# Altium schematic symbol library JLC_PCB.SchLib: 359 symbols (part 2 of 3)
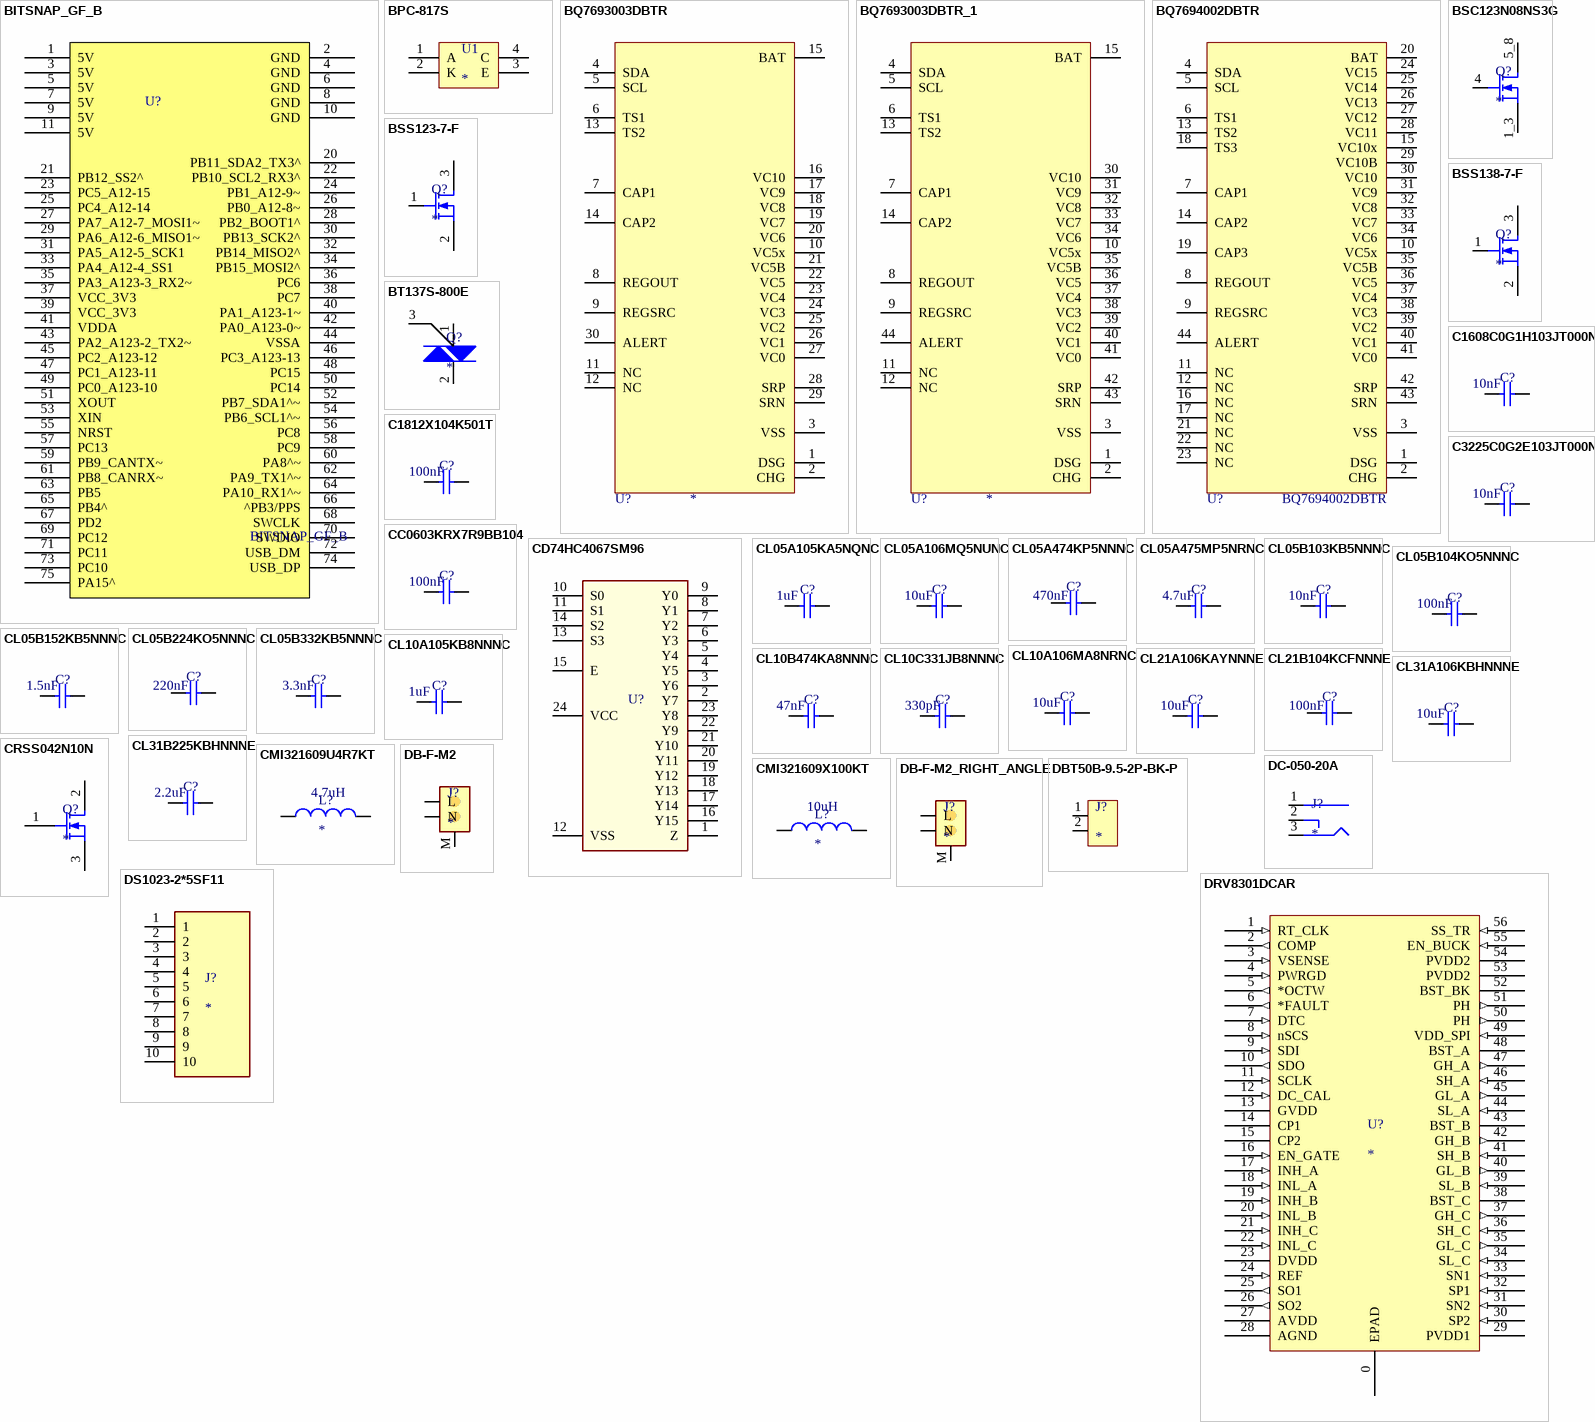
[diagram p10: symbols BITSNAP_GF_B to DS1023-2*5SF11]

## DRV8301DCAR
designator U?
U - IC - 60V Three Phase Gate Driver With Dual Current Shunt Amplifiers and  Buck Regulator; JLC Availability: Extended; LCSC Part #: C98969
footprint HTSSOP-56-EP (DRV830X)
pins: 0 EPAD, 1 RT_CLK (in), 2 COMP (out), 3 VSENSE (in), 4 PWRGD (in), 5 *OCTW (out), 6 *FAULT (out), 7 DTC (in), 8 nSCS (in), 9 SDI (in), 10 SDO (out), 11 SCLK (in), 12 DC_CAL (in), 13 GVDD (power), 14 CP1 (power), 15 CP2 (power), 16 EN_GATE (in), 17 INH_A (in), 18 INL_A (in), 19 INH_B (in), 20 INL_B (in), 21 INH_C (in), 22 INL_C (in), 23 DVDD (power), 24 REF (in), 25 SO1 (out), 26 SO2 (out), 27 AVDD (power), 28 AGND (power), 29 PVDD1 (power), 30 SP2 (in), 31 SN2 (in), 32 SP1 (in), 33 SN1 (in), 34 SL_C (in), 35 GL_C (out), 36 SH_C (in), 37 GH_C (out), 38 BST_C (power), 39 SL_B (in), 40 GL_B (out), 41 SH_B (in), 42 GH_B (out), 43 BST_B (power), 44 SL_A (in), 45 GL_A (out), 46 SH_A (in), 47 GH_A (out), 48 BST_A (power), 49 VDD_SPI (in), 50 PH (out), 51 PH (out), 52 BST_BK (power), 53 PVDD2 (power), 54 PVDD2 (power), 55 EN_BUCK (in), 56 SS_TR (in)

## DS1023-2*5SF11
designator J?
J - JACK - PIN_HEADER 2X5P; LCSC Part #: C92270; JLC Availability: Extended
footprint HDR_FEM_2X5P (10 Pin 2 Row Header)
pins: 1, 2, 3, 4, 5, 6, 7, 8, 9, 10

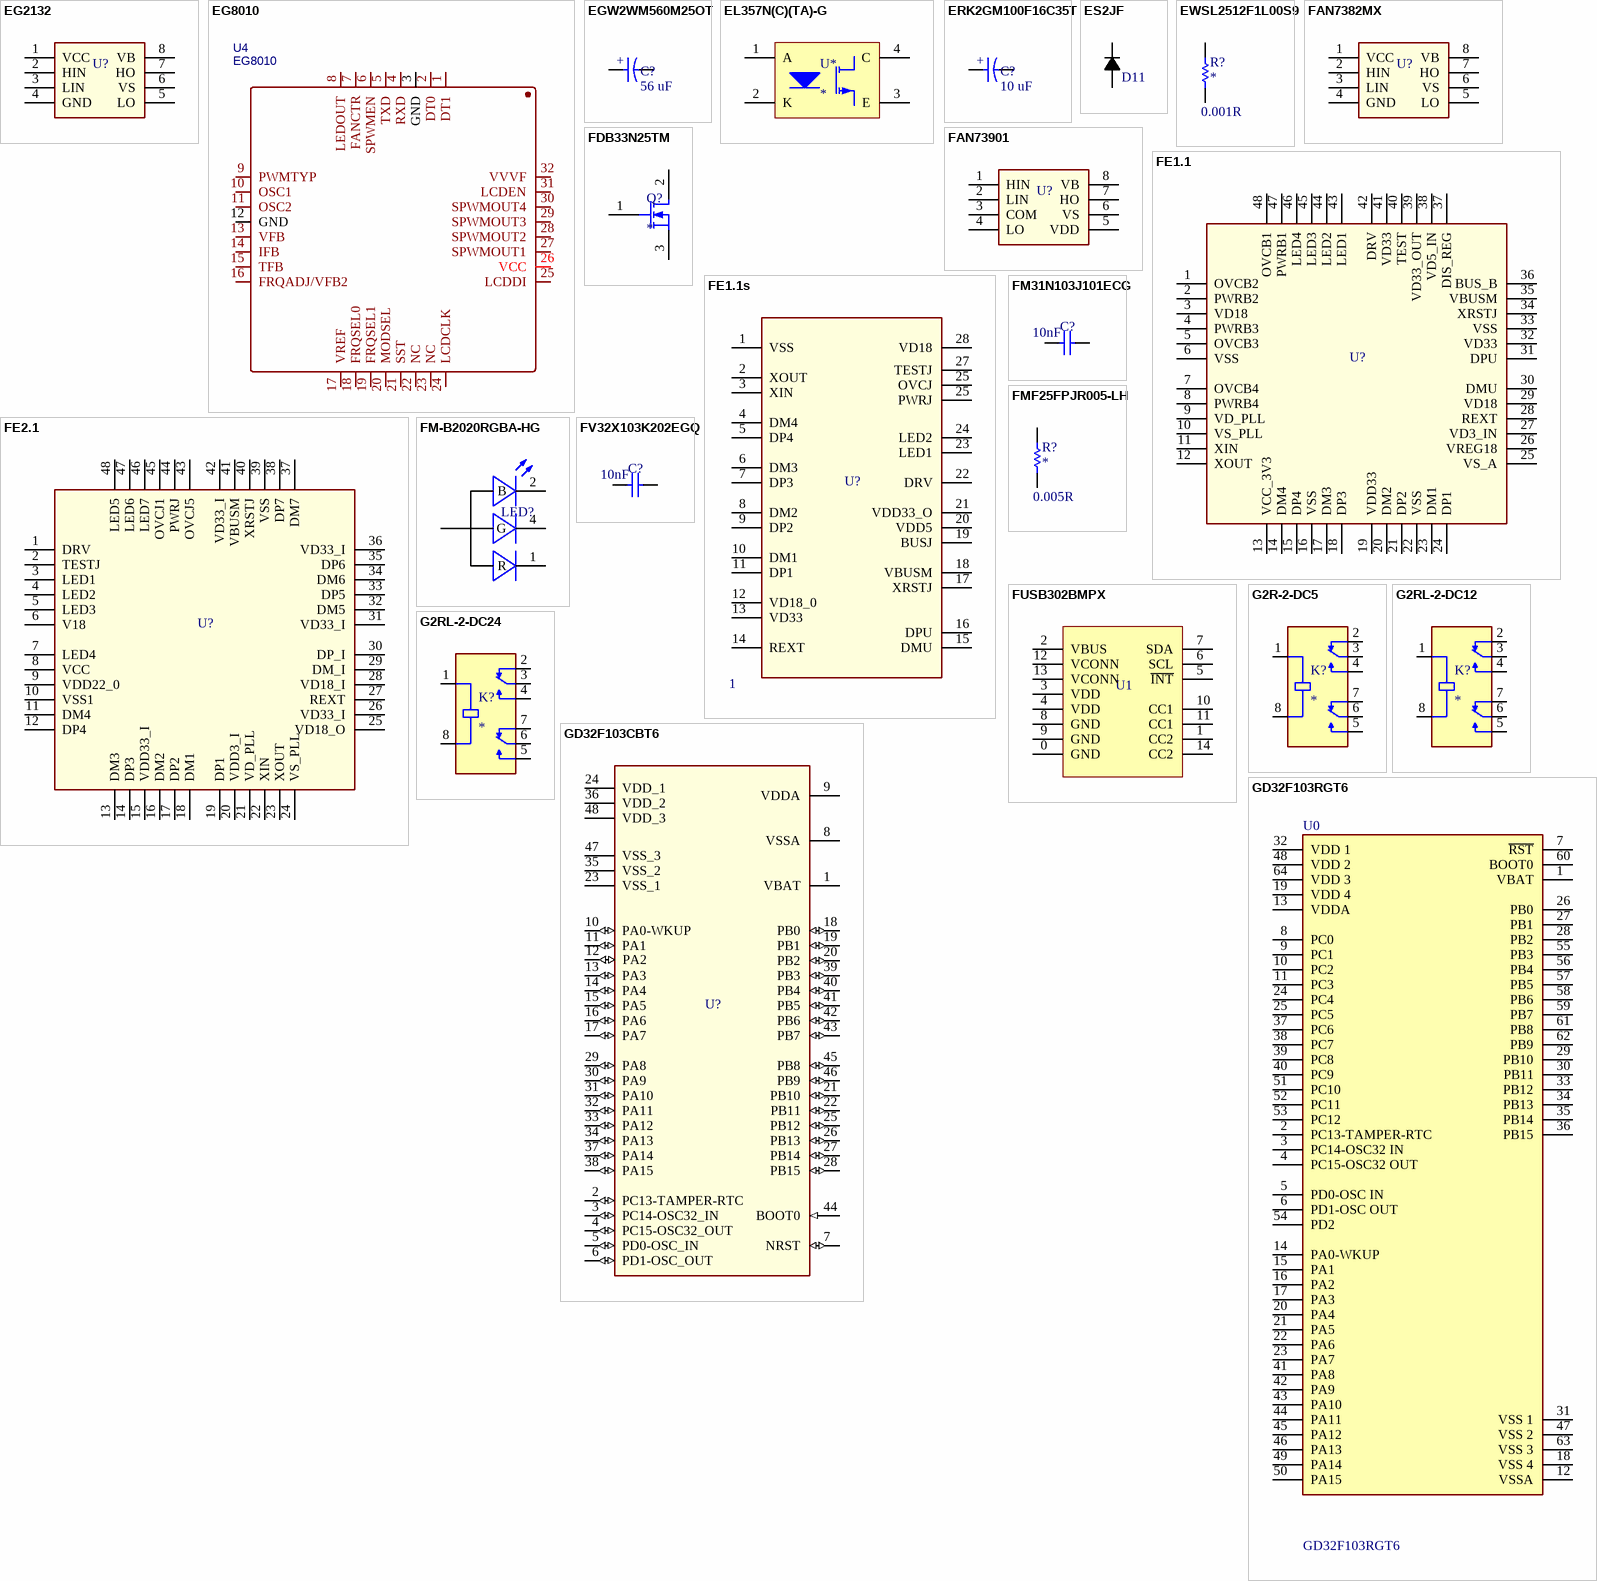
[diagram p5: symbols EG2132 to GD32F103RGT6]

## EG2132
designator U?
U - IC - GATE DRIVER - Half Bridge; ComponentLink1Description: Manufacturer URL; ComponentLink1URL: http://www.st.com/web/en/home.html; ComponentLink2Description: Datasheet; ComponentLink2URL: http://www.st.com/st-web-ui/static/active/en/resource/technical/document/datasheet/CD00161566.pdf; ComponentLink3Description: Package Specification; ComponentLink3URL: http://www.st.com/st-web-ui/static/active/en/resource/technical/document/datasheet/DM00058181.pdf; JLC Availability: Extended; LCSC Part #: C480660
footprint SOIC-8-P1.27-W3.5
pins: 1 VCC "VSS", 2 HIN "VSS_3", 3 LIN, 4 GND, 5 LO, 6 VS, 7 HO, 8 VB

## EG8010
designator U4
U - IC - PURE SINE ASIC; Manufacturer: EG; SMT Type: Extend; Supplier: LCSC; Manufacturer Part: EG8010; Supplier Part: C81683; LCSC Assembly: Yes; spicePre: U; spiceSymbolName: EG8010
footprint QFP-32-P0.5MM
pins: 1 DT1, 2 DT0, 3 GND, 4 RXD, 5 TXD, 6 SPWMEN, 7 FANCTR, 8 LEDOUT, 9 PWMTYP, 10 OSC1, 11 OSC2, 12 GND, 13 VFB, 14 IFB, 15 TFB, 16 FRQADJ/VFB2, 17 VREF, 18 FRQSEL0, 19 FRQSEL1, 20 MODSEL, 21 SST, 22 NC, 23 NC, 24 LCDCLK, 25 LCDDI, 26 VCC, 27 SPWMOUT1, 28 SPWMOUT2, 29 SPWMOUT3, 30 SPWMOUT4, 31 LCDEN, 32 VVVF

## EGW2WM560M25OT
designator C?, comment 56 uF
C - CAPACITOR - ELECTROYLTIC - 56 uF - 450V - TH; MANUFACTURER: AISHI (AIHUA) GROUP; LCSC PART #: C2902571; Availability: Extended
footprint CAP_D18_L7.5
pins: 1, 2
text: +

## EL357N(C)(TA)-G
designator U*
U - IC - OptoIsolator; JLC Availability: Basic; LCSC Part Number: C29981
footprint SOP-4 (Optoisolator)
pins: 1 A, 2 K, 3 E, 4 C

## ERK2GM100F16C35T
designator C?, comment 10 uF
C - CAPACITOR - ELECTROYLTIC - 10 uF - 450V - TH; MANUFACTURER: AISHI (AIHUA) GROUP; LCSC PART #: C721202; Availability: Extended
footprint CAP_D8_L16
pins: 1, 2
text: +

## ES2JF
designator D11  (value not drawn)
D - ES2JF ULTRAFAST DIODE 1KV - 2A; LCSC Part #: C7420342; JLC Availability: Basic
footprint DO-214AC (SMA Diode)
pins: 1 K, 2 A

## EWSL2512F1L00S9
designator R?  value 0.001R
R - RESISTOR - SMD - 0.001R - 1% - 2512 - 2W - 50ppm/k; ComponentLink1URL: http://riedon.com/media/pdf/CSR.pdf; ComponentLink1Description: http://riedon.com/media/pdf/CSR.pdf; LCSC Part #: C349153; JLC Availability: Extended
footprint R_2512 (VISHAY SHUNT RESISTOR)
pins: 1, 2

## FAN7382MX
designator U?
U - IC - GATE DRIVER - Half Bridge; ComponentLink1Description: Manufacturer URL; ComponentLink1URL: http://www.st.com/web/en/home.html; ComponentLink2Description: Datasheet; ComponentLink2URL: http://www.st.com/st-web-ui/static/active/en/resource/technical/document/datasheet/CD00161566.pdf; ComponentLink3Description: Package Specification; ComponentLink3URL: http://www.st.com/st-web-ui/static/active/en/resource/technical/document/datasheet/DM00058181.pdf; JLC Availability: Extended; LCSC Part #: C128796
footprint SOIC-8-P1.27-W3.5
pins: 1 VCC "VSS", 2 HIN "VSS_3", 3 LIN, 4 GND, 5 LO, 6 VS, 7 HO, 8 VB

## FAN73901
designator U?
U - IC - GATE DRIVER - Half Bridge; ComponentLink1Description: Manufacturer URL; ComponentLink1URL: http://www.st.com/web/en/home.html; ComponentLink2Description: Datasheet; ComponentLink2URL: http://www.st.com/st-web-ui/static/active/en/resource/technical/document/datasheet/CD00161566.pdf; ComponentLink3Description: Package Specification; ComponentLink3URL: http://www.st.com/st-web-ui/static/active/en/resource/technical/document/datasheet/DM00058181.pdf; JLC Availability: Extended; LCSC Part #: C76233
footprint SOIC-8-P1.27-W3.5
pins: 1 HIN "VSS", 2 LIN "VSS_3", 3 COM, 4 LO, 5 VDD, 6 VS, 7 HO, 8 VB

## FDB33N25TM
designator Q?
Q - TRANSISTOR - MOSFET (N) - 250V - 33A - 0.094R; WVDC: 250; JLC Availability: Extended; LCSC Part #: C241752
footprint TO-263-3 (D2PAK)
pins: 1 G, 2 D, 3 S

## FE1.1
designator U?
U - IC - USB 2.0 Hub - 4 Port - 6TT; Transaction Translators: 6; ComponentLink1Description: Manufacturer URL; ComponentLink1URL: http://www.st.com/web/en/home.html; ComponentLink2Description: Datasheet; ComponentLink2URL: http://www.st.com/st-web-ui/static/active/en/resource/technical/document/datasheet/CD00161566.pdf; ComponentLink3Description: Package Specification; ComponentLink3URL: http://www.st.com/st-web-ui/static/active/en/resource/technical/document/datasheet/DM00058181.pdf; JLC Availability: Extended; LCSC Part #: C28958
footprint QFP-48-P0.5MM (QFP; 48 Leads; Body 7 x 7 mm; Pitch 0.5 mm)
pins: 1 OVCB2, 2 PWRB2, 3 VD18, 4 PWRB3, 5 OVCB3, 6 VSS "VSS_1", 7 OVCB4 "VSS_1", 8 PWRB4 "VSS_1", 9 VD_PLL "VSS_1", 10 VS_PLL "VSS_1", 11 XIN "VSS_1", 12 XOUT "VSS_1", 13 VCC_3V3 "VSS_1", 14 DM4 "VSS_1", 15 DP4 "VSS_1", 16 VSS "VSS_1", 17 DM3, 18 DP3, 19 VDD33, 20 DM2, 21 DP2, 22 VSS "VSS_1", 23 DM1 "VSS_1", 24 DP1 "VSS_1", 25 VS_A "VSS_1", 26 VREG18 "VSS_1", 27 VD3_IN "VSS_1", 28 REXT "VSS_1", 29 VD18, 30 DMU, 31 DPU, 32 VD33, 33 VSS, 34 XRSTJ "VSS_1", 35 VBUSM "VSS_1", 36 BUS_B "VSS_1", 37 DIS_REG "VSS_1", 38 VD5_IN "VSS_1", 39 VD33_OUT "VSS_1", 40 TEST "VSS_1", 41 VD33, 42 DRV, 43 LED1, 44 LED2, 45 LED3, 46 LED4 "VSS_1", 47 PWRB1 "VSS_1", 48 OVCB1 "VSS_1"

## FE1.1s
designator U?  Transaction Translators: 1
U - IC - USB 2.0 Hub - 4 Port - 1TT; ComponentLink1Description: Manufacturer URL; ComponentLink1URL: http://www.st.com/web/en/home.html; ComponentLink2Description: Datasheet; ComponentLink2URL: http://www.st.com/st-web-ui/static/active/en/resource/technical/document/datasheet/CD00161566.pdf; ComponentLink3Description: Package Specification; ComponentLink3URL: http://www.st.com/st-web-ui/static/active/en/resource/technical/document/datasheet/DM00058181.pdf; JLC Availability: Extended; LCSC Part #: C9359
footprint TSSOP-28-P0.65MM-W3.9MM (Shrink Small Outline; 28 Leads)
pins: 1 VSS (power), 2 XOUT "VSS_3", 3 XIN, 4 DM4, 5 DP4, 6 DM3, 7 DP3, 8 DM2, 9 DP2, 10 DM1, 11 DP1, 12 VD18_0, 13 VD33, 14 REXT, 15 DMU, 16 DPU, 17 XRSTJ, 18 VBUSM, 19 BUSJ, 20 VDD5, 21 VDD33_O, 22 DRV, 23 LED1, 24 LED2, 25 PWRJ, 25 OVCJ, 27 TESTJ, 28 VD18

## FE2.1
designator U?
U - IC - USB 2.0 Hub, 7 Port, 6TT; Transaction Translators: 6; ComponentLink1Description: Manufacturer URL; ComponentLink1URL: http://www.st.com/web/en/home.html; ComponentLink2Description: Datasheet; ComponentLink2URL: http://www.st.com/st-web-ui/static/active/en/resource/technical/document/datasheet/CD00161566.pdf; ComponentLink3Description: Package Specification; ComponentLink3URL: http://www.st.com/st-web-ui/static/active/en/resource/technical/document/datasheet/DM00058181.pdf; JLC Availability: Extended; LCSC Part #: C39693
footprint QFP-48 (QFP; 48 Leads; Body 7 x 7 mm; Pitch 0.5 mm)
pins: 1 DRV, 2 TESTJ, 3 LED1, 4 LED2, 5 LED3, 6 V18 "VSS_1", 7 LED4 "VSS_1", 8 VCC "VSS_1", 9 VDD22_0 "VSS_1", 10 VSS1 "VSS_1", 11 DM4 "VSS_1", 12 DP4 "VSS_1", 13 DM3 "VSS_1", 14 DP3 "VSS_1", 15 VDD33_I "VSS_1", 16 DM2 "VSS_1", 17 DP2, 18 DM1, 19 DP1, 20 VDD3_I, 21 VD_PLL, 22 XIN "VSS_1", 23 XOUT "VSS_1", 24 VS_PLL "VSS_1", 25 VD18_O "VSS_1", 26 VD33_I "VSS_1", 27 REXT "VSS_1", 28 VD18_I "VSS_1", 29 DM_I, 30 DP_I, 31 VD33_I, 32 DM5, 33 DP5, 34 DM6 "VSS_1", 35 DP6 "VSS_1", 36 VD33_I "VSS_1", 37 DM7 "VSS_1", 38 DP7 "VSS_1", 39 VSS "VSS_1", 40 XRSTJ "VSS_1", 41 VBUSM, 42 VD33_I, 43 OVCJ5, 44 PWRJ, 45 OVCJ1, 46 LED7 "VSS_1", 47 LED6 "VSS_1", 48 LED5 "VSS_1"

## FM31N103J101ECG
designator C?  value 10nF  (hidden comment: *)
C - CAPACITOR - MLCC - 10nF - 100V - 1206 - C0G; WVDC: 100; LCSC Part #: C784087; JLC Availability: Extended
footprint C_1206 (Chip Capacitor; Body 3.2 x 1.6 mm (LxW typ))
pins: 1, 2

## FM-B2020RGBA-HG
designator LED?  (value not drawn)
D - LED - 2020 - RGB; JLC Availability: Extended; LCSC Part #: C108793
footprint FM-B2020RGBA-HG (FM-B2020RGBA-HG LED)
pins: 1 R, 2 B, 3 A, 4 G

## FMF25FPJR005-LH
designator R?  value 0.005R
R - RESISTOR - SMD - 0.005R - 1% - 2512 - 2W; ComponentLink1URL: http://riedon.com/media/pdf/CSR.pdf; ComponentLink1Description: http://riedon.com/media/pdf/CSR.pdf; LCSC Part #: C371096; JLC Availability: Extended
footprint R_2512 (VISHAY SHUNT RESISTOR)
pins: 1, 2

## FUSB302BMPX
designator U1  (value not drawn)
U - IC - USB PD PHY; JLC Availability: Extended; LCSC Part #: C442699
footprint QFN-14-P0.5MM (Quad Flat No Lead, Plastic; 14 Terminals; Body 2.5 x 2.5 mm; Pitch 0.5 mm)
pins: 0 GND, 1 CC2, 2 VBUS, 3 VDD, 4 VDD, 5 ~{INT}, 6 SCL, 7 SDA, 8 GND, 9 GND, 10 CC1, 11 CC1, 12 VCONN, 13 VCONN, 14 CC2

## FV32X103K202EGQ
designator C?  value 10nF  (hidden comment: *)
C - CAPACITOR - MLCC - 10nF - 2kV - 1210 - C0G; WVDC: 2000; LCSC Part #: C1021550; JLC Availability: Extended
footprint C_1210 (Chip Capacitor; Body 3.2 x 2.5 mm (LxW typ))
pins: 1, 2

## G2R-2-DC5
designator K?
SW - Relay 5VDC 5A DPDT THT; MP: G2R-2-DC5; Coil: 5V; MF: Omron; Current: 5A; Availability: Extended; Value: *; Type: DPDT; LCSC Part #: C45401
footprint G2R-2-DC5
pins: 1 COIL1, 2 NC1, 3 COM1, 4 NO1, 5 NO2, 6 COM2, 7 NC2, 8 COIL2

## G2RL-2-DC12
designator K?
SW - Relay 12VDC 8A DPDT (( 29mm 12.7mm 15.7mm)) THT; MP: G2RL-2-DC12; Coil: 12V; MF: Omron; Current: 8A; Availability: Extended; Value: *; Type: DPDT; LCSC Part #: C61458
footprint RELAY_G2RL-2_12DC
pins: 1 COIL1, 2 NC1, 3 COM1, 4 NO1, 5 NO2, 6 COM2, 7 NC2, 8 COIL2

## G2RL-2-DC24
designator K?
SW - Relay 24VDC 8A DPDT (( 29mm 12.7mm 15.7mm)) THT; MP: G2RL-2-DC24; Coil: 24V; MF: Omron; Current: 8A; Availability: Extended; Value: *; Type: DPDT; LCSC Part #: C2940452
footprint RELAY_G2RL-2_12DC
pins: 1 COIL1, 2 NC1, 3 COM1, 4 NO1, 5 NO2, 6 COM2, 7 NC2, 8 COIL2

## GD32F103CBT6
designator U?
U - IC - MCU, 128 KB Flash, 20 KB Internal RAM, 37 I/Os, 48-pin LQFP, -40 to 85 degC; FLASH Size (Prog) (kB): 128; I/Os (High Current): 37; Internal RAM Size (kB): 20; Operating Frequency(F) (Processor speed) (MHz): 72; ComponentLink1Description: Manufacturer URL; ComponentLink1URL: http://www.st.com/web/en/home.html; ComponentLink2Description: Datasheet; ComponentLink2URL: http://www.st.com/st-web-ui/static/active/en/resource/technical/document/datasheet/CD00161566.pdf; ComponentLink3Description: Package Specification; ComponentLink3URL: http://www.st.com/st-web-ui/static/active/en/resource/technical/document/datasheet/DM00058181.pdf; JLC Availability: Extended; LCSC Part #: C77979
footprint QFP-48-P0.5MM (QFP; 48 Leads; Body 7 x 7 mm; Pitch 0.5 mm)
pins: 1 VBAT (power), 2 PC13-TAMPER-RTC (io) "PC13-TAMPER-RTC/PC13/TAMPER-RTC", 3 PC14-OSC32_IN (io) "PC14-OSC32_IN/PC14/OSC32_IN", 4 PC15-OSC32_OUT (io) "PC15-OSC32_OUT/PC15/OSC32_OUT", 5 PD0-OSC_IN (io) "PD0/OSC_IN", 6 PD1-OSC_OUT (io) "PD1/OSC_OUT", 7 NRST (io), 8 VSSA (power), 9 VDDA (power), 10 PA0-WKUP (io) "PA0-WKUP/PA0/WKUP/USART2_CTS/ADC12_IN0/TIM2_CH1_ETR", 11 PA1 (io) "PA1/USART2_RTS/ADC12_IN1/TIM2_CH2", 12 PA2 (io) "PA2/USART2_TX/ADC12_IN2/TIM2_CH3", 13 PA3 (io) "PA3/USART2_RX/ADC12_IN3/TIM2_CH4", 14 PA4 (io) "PA4/SPI1_NSS/USART2_CK/ADC12_IN4", 15 PA5 (io) "PA5/SPI1_SCK/ADC12_IN5", 16 PA6 (io) "PA6/SPI1_MISO/ADC12_IN6/TIM3_CH1/TIM1_BKIN", 17 PA7 (io) "PA7/SPI1_MOSI/ADC12_IN7/TIM3_CH2/TIM1_CH1N", 18 PB0 (io) "PB0/ADC12_IN8/TIM3_CH3/TIM1_CH2N", 19 PB1 (io) "PB1/ADC12_IN9/TIM3_CH4/TIM1_CH3N", 20 PB2 (io) "PB2/BOOT1", 21 PB10 (io) "PB10/I2C2_SCL/USART3_TX/TIM2_CH3", 22 PB11 (io) "PB11/I2C2_SDA/USART3_RX/TIM2_CH4", 23 VSS_1 (power), 24 VDD_1 (power), 25 PB12 (io) "PB12/SPI2_NSS/I2C2_SMBAl/USART3_CK/TIM1_BKIN", 26 PB13 (io) "PB13/SPI2_SCK/USART3_CTS/TIM1_CH1N", 27 PB14 (io) "PB14/SPI2_MISO/USART3_RTS/TIM1_CH2N", 28 PB15 (io) "PB15/SPI2_MOSI/TIM1_CH3N", 29 PA8 (io) "PA8/USART1_CK/TIM1_CH1/MCO", 30 PA9 (io) "PA9/USART1_TX/TIM1_CH2", 31 PA10 (io) "PA10/USART1_RX/TIM1_CH3", 32 PA11 (io) "PA11/USART1_CTS/CANRX/USBDM/TIM1_CH4", 33 PA12 (io) "PA12/USART1_RTS/CANTX/USBDP/TIM1_ETR", 34 PA13 (io) "PA13/JTMS/SWDIO", 35 VSS_2 (power), 36 VDD_2 (power), 37 PA14 (io) "PA14/JTCK/SWCLK", 38 PA15 (io) "PA15/JTDI/TIM2_CH1_ETR/SPI1_NSS", 39 PB3 (io) "PB3/JTDO/TIM2_CH2/TRACESWO/SPI1_SCK", 40 PB4 (io) "PB4/NJTRST/TIM3_CH1/SPI1_MISO", 41 PB5 (io) "PB5/I2C1_SMBAI/TIM3_CH2/SPI1_MOSI", 42 PB6 (io) "PB6/I2C1_SCL/TIM4_CH1/USART1_TX", 43 PB7 (io) "PB7/I2C1_SDA/TIM4_CH2/USART1_RX", 44 BOOT0 (in), 45 PB8 (io) "PB8/TIM4_CH3/I2C1_SCL/CANRX", 46 PB9 (io) "PB9/TIM4_CH4/I2C1_SDA/CANTX", 47 VSS_3 (power), 48 VDD_3 (power)

## GD32F103RGT6
designator U0
U - IC - MCU 32BIT 128KB FLASH 64LQFP; ComponentLink2Description: Datasheet; ComponentLink1URL: https://upverter.com/upn/revision/179c87d5c3d4f257/; ComponentLink1Description: Upverter; ComponentLink2URL: http://www.st.com/content/ccc/resource/technical/document/datasheet/33/d4/6f/1d/df/0b/4c/6d/CD00161566.pdf/files/CD00161566.pdf/jcr:content/translations/en.CD00161566.pdf; LCSC Part #: C78275; JLC Availability: Extended
footprint QFP-64-P0.5MM (64-Pin Plastic Quad Flat Pack (TQFP))
pins: 1 VBAT (power), 2 PC13-TAMPER-RTC, 3 PC14-OSC32 IN, 4 PC15-OSC32 OUT, 5 PD0-OSC IN, 6 PD1-OSC OUT, 7 ~{RST}, 8 PC0, 9 PC1, 10 PC2, 11 PC3, 12 VSSA (power), 13 VDDA (power), 14 PA0-WKUP, 15 PA1, 16 PA2, 17 PA3, 18 VSS 4 (power), 19 VDD 4 (power), 20 PA4, 21 PA5, 22 PA6, 23 PA7, 24 PC4, 25 PC5, 26 PB0, 27 PB1, 28 PB2, 29 PB10, 30 PB11, 31 VSS 1 (power), 32 VDD 1 (power), 33 PB12, 34 PB13, 35 PB14, 36 PB15, 37 PC6, 38 PC7, 39 PC8, 40 PC9, 41 PA8, 42 PA9, 43 PA10, 44 PA11, 45 PA12, 46 PA13, 47 VSS 2 (power), 48 VDD 2 (power), 49 PA14, 50 PA15, 51 PC10, 52 PC11, 53 PC12, 54 PD2, 55 PB3, 56 PB4, 57 PB5, 58 PB6, 59 PB7, 60 BOOT0, 61 PB8, 62 PB9, 63 VSS 3 (power), 64 VDD 3 (power)

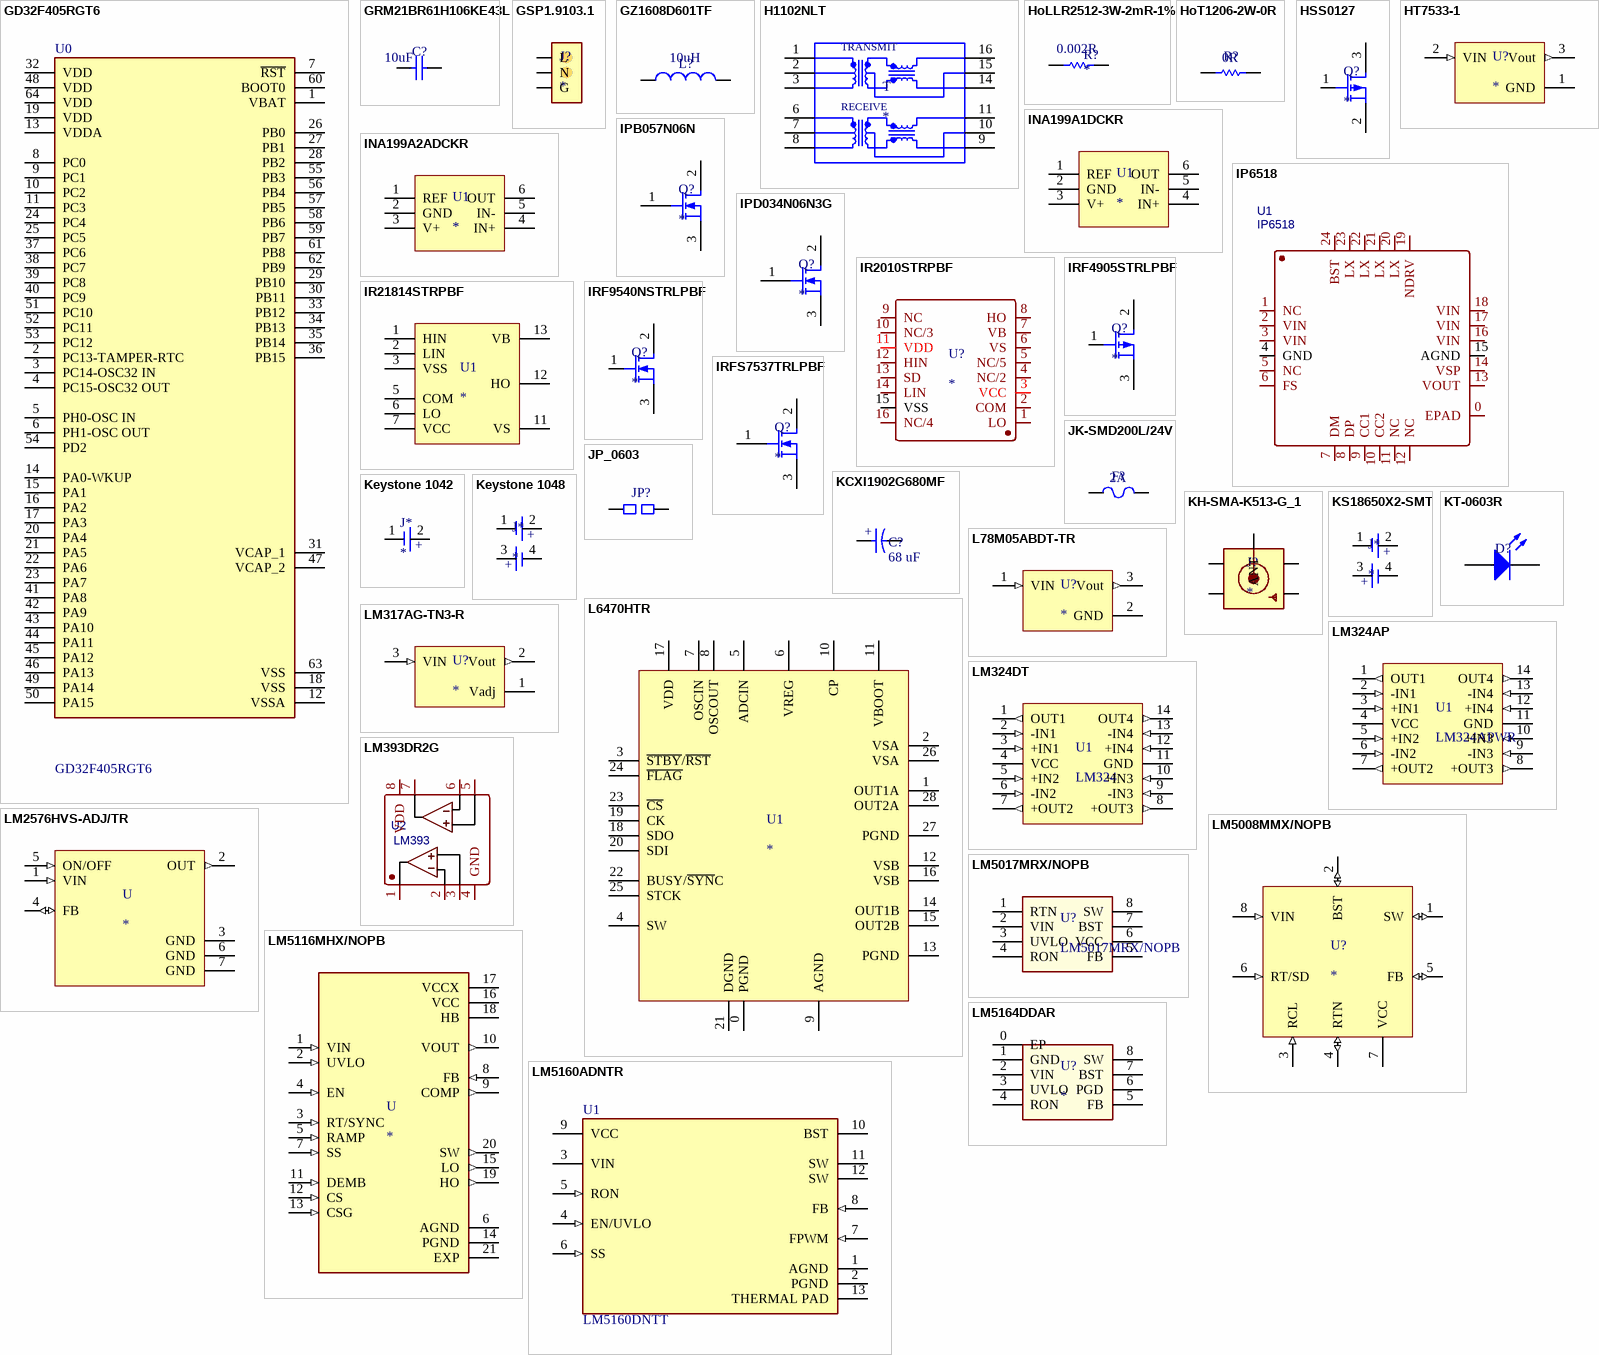
[diagram p6: symbols GD32F405RGT6 to LM5164DDAR]

## GD32F405RGT6
designator U0
U - IC - MCU 32BIT 1MB FLASH 64LQFP; ComponentLink2Description: Datasheet; ComponentLink1URL: https://upverter.com/upn/revision/179c87d5c3d4f257/; ComponentLink1Description: Upverter; ComponentLink2URL: http://www.st.com/content/ccc/resource/technical/document/datasheet/33/d4/6f/1d/df/0b/4c/6d/CD00161566.pdf/files/CD00161566.pdf/jcr:content/translations/en.CD00161566.pdf; LCSC Part #: C99031; JLC Availability: Extended
footprint QFP-64-P0.5MM (64-Pin Plastic Quad Flat Pack (TQFP))
pins: 1 VBAT (power), 2 PC13-TAMPER-RTC, 3 PC14-OSC32 IN, 4 PC15-OSC32 OUT, 5 PH0-OSC IN, 6 PH1-OSC OUT, 7 ~{RST}, 8 PC0, 9 PC1, 10 PC2, 11 PC3, 12 VSSA (power), 13 VDDA (power), 14 PA0-WKUP, 15 PA1, 16 PA2, 17 PA3, 18 VSS (power), 19 VDD (power), 20 PA4, 21 PA5, 22 PA6, 23 PA7, 24 PC4, 25 PC5, 26 PB0, 27 PB1, 28 PB2, 29 PB10, 30 PB11, 31 VCAP_1 (power), 32 VDD (power), 33 PB12, 34 PB13, 35 PB14, 36 PB15, 37 PC6, 38 PC7, 39 PC8, 40 PC9, 41 PA8, 42 PA9, 43 PA10, 44 PA11, 45 PA12, 46 PA13, 47 VCAP_2 (power), 48 VDD (power), 49 PA14, 50 PA15, 51 PC10, 52 PC11, 53 PC12, 54 PD2, 55 PB3, 56 PB4, 57 PB5, 58 PB6, 59 PB7, 60 BOOT0, 61 PB8, 62 PB9, 63 VSS (power), 64 VDD (power)

## GRM21BR61H106KE43L
designator C?  value 10uF  (hidden comment: *)
C - CAPACITOR - MLCC - 10uF - 50V - 0805; WVDC: 50; LCSC Part #: C440198; Availability: Basic
footprint C_0805 (Chip Capacitor; Body 2.0 x 1.2 mm (LxW typ))
pins: 1, 2

## GSP1.9103.1
designator J?
J - JACK - POWER - 220/V115V - IEC - RA - MALE; JLC Availability: None
footprint GSP1.9103.1
pins: G, L, N

## GZ1608D601TF
designator L?  value 10uH  (hidden comment: *)
L - FERRITE - 200mA 600R @ 100MHz - 0603; JLC Availability: Basic; LCSC Part #: C1002
footprint L_0603
pins: 1, 2

## H1102NLT
designator T
T - Transfrormer - Isolation and Data Interface _Encapsulated_ Pulse Transformer 1:1 Transmitter, 1:1 Receiver Surface Mount; MF: Pulse Electronics; MP: H1102NL; Package: SOIC-16 Pulse; Value: *; LCSC Part #: C18584; SnapEDA_Link: https://www.snapeda.com/parts/H1102NL/Pulse%20Electronics%20Network/view-part/78695/?ref=snap; Availability: Extended
footprint XFMR_H1102NLT
pins: 1, 2, 3, 6, 7, 8, 9, 10, 11, 14, 15, 16
text: TRANSMIT; RECEIVE

## HoLLR2512-3W-2mR-1%
designator R?  value 0.002R
R - RESISTOR - SMD - 0.002R - 1% - 2512 - 2W - 50ppm/k; ComponentLink1URL: http://riedon.com/media/pdf/CSR.pdf; ComponentLink1Description: http://riedon.com/media/pdf/CSR.pdf; LCSC Part #: C2994640; JLC Availability: Extended
footprint R_2512 (VISHAY SHUNT RESISTOR)
pins: 1, 2

## HoT1206-2W-0R
designator R?  value 0R  (hidden comment: *)
R - RESISTOR - SMD - 0R - 1% - 1206; LCSC Part #: C5127788; JLC Availability: Extended
footprint R_1206 (Body 3.2 x 1.6 mm (LxW typ))
pins: 1, 2

## HSS0127
designator Q?
Q - TRANSISTOR - MOSFET (P) - 100V - 0.9A - 0.65 Ohm; WVDC: 100; JLC Availability: Extended; LCSC Part #: C700960
footprint TO-236AB (SOT-23-3 Leads; Body 3.1 x 3 mm, inc. leads (LxW max))
pins: 1 G, 2 S, 3 D

## HT7533-1
designator U?
U - IC - 3V3 Power Regulator; VOut: 3.3; LCSC Part #: C14289; JLC Availability: Basic
footprint SOT-223-3 (SOT223, 4-Leads, Body IPC High Density)
pins: 1 GND (power), 2 VIN (in), 3 Vout (out)

## INA199A1DCKR
designator U1
U - IC - Bidirectional Current-Sensing Amplifiers 50V/V; JLC Availability: Extended; LCSC Part #: C59135
footprint SOT-353-6 (6 Leads; Body 2.1 x 2.4 mm, inc. leads (LxW max))
pins: 1 REF, 2 GND, 3 V+, 4 IN+, 5 IN-, 6 OUT

## INA199A2ADCKR
designator U1
U - IC - Bidirectional Current-Sensing Amplifiers 100V/V; JLC Availability: Extended; LCSC Part #: C131913
footprint SOT-353-6 (6 Leads; Body 2.1 x 2.4 mm, inc. leads (LxW max))
pins: 1 REF, 2 GND, 3 V+, 4 IN+, 5 IN-, 6 OUT

## IP6518
designator U1
U - IC - USB TYPE C Charger; Manufacturer: INJOINIC; Contributor: LCSC; Supplier: LCSC; LCSC Part #: C181688; Manufacturer Part: IP6518; JLCPCB Part Class: Extended Part; spicePre: U; spiceSymbolName: IP6518
footprint QFN-24-P0.5mm (Quad Flat No Lead, Plastic; 24 Terminals; Body 4 x 4 mm; Pitch 0.5 mm)
pins: 0 EPAD, 1 NC, 2 VIN, 3 VIN, 4 GND, 5 NC, 6 FS, 7 DM, 8 DP, 9 CC1, 10 CC2, 11 NC, 12 NC, 13 VOUT, 14 VSP, 15 AGND, 16 VIN, 17 VIN, 18 VIN, 19 NDRV, 20 LX, 21 LX, 22 LX, 23 LX, 24 BST

## IPB057N06N
designator Q?
Q - TRANSISTOR - MOSFET (N) - 60V - 45A - 0.0057R; WVDC: 60; JLC Availability: Extended; LCSC Part #: C151524
footprint TO-263-3 (D2PAK)
pins: 1 G, 2 D, 3 S

## IPD034N06N3G
designator Q?
Q - TRANSISTOR - MOSFET (N) - 60V - 100A; WVDC: 60; LCSC Part #: C94897; JLC Availability: Extended
footprint TO-252AA (DPAK)
pins: 1 G, 2 D, 3 S

## IR2010STRPBF
designator U?
U - IC - GATE DRIVER, Half Bridge, Isolated; LCSC Part #: C114890; JLC Availability: Extended
footprint SOIC-16-P1.27-W7.5
pins: 1 LO, 2 COM, 3 VCC, 4 NC/2, 5 NC/5, 6 VS, 7 VB, 8 HO, 9 NC, 10 NC/3, 11 VDD, 12 HIN, 13 SD, 14 LIN, 15 VSS, 16 NC/4

## IR21814STRPBF
designator U1
U - IC - GATE DRIVER, Half Bridge, Isolated; LCSC Part #: C371545; JLC Availability: Extended
footprint SOIC-14-P1.27-W3.5
pins: 1 HIN, 2 LIN, 3 VSS, 5 COM, 6 LO, 7 VCC, 11 VS, 12 HO, 13 VB

## IRF4905STRLPBF
designator Q?
Q - TRANSISTOR - MOSFET (P) - 55V - 42A - 0.02R; WVDC: 60; LCSC Part #: C2620; JLC Availability: Extended
footprint TO-263-3 (D2PAK)
pins: 1 G, 2 D, 3 S

## IRF9540NSTRLPBF
designator Q?
Q - TRANSISTOR - MOSFET (P) - 100V - 23A - 0.117R; WVDC: 100; JLC Availability: Extended; LCSC Part #: C33903
footprint TO-263-3 (D2PAK)
pins: 1 G, 2 D, 3 S

## IRFS7537TRLPBF
designator Q?
Q - TRANSISTOR - MOSFET (N) - 60V - 175A - 0.0033R; WVDC: 60; JLC Availability: Extended; LCSC Part #: C538034
footprint TO-263-3 (D2PAK)
pins: 1 G, 2 D, 3 S

## JK-SMD200L/24V
designator F?  value 2A  (hidden comment: *)
F - FUSE - PTC - 2A HOLD - 4A TRIP - SMD; LCSC Part #: C2680534; JLC Availability: Extended
footprint JK-SMD200L-24 (Body 7.24 x 3.81 mm (LxW typ))
pins: 1, 2

## JP_0603
designator JP?  (value not drawn)
JP - JUMPER - SMD - 0R - 1% - 0603; LCSC Part #: C21189; JLC Availability: Basic; Value: 0R
footprint J_0603 (Body 1.6 x 0.8 mm (LxW typ))
pins: 1, 2

## KCXI1902G680MF
designator C?, comment 68 uF
C - CAPACITOR - ELECTROYLTIC - 68 uF - 450V - TH; MANUFACTURER: Ymin; LCSC PART #: C2874034; Availability: Extended
footprint CAP_D18_L7.5
pins: 1, 2
text: +

## Keystone 1042
designator J*
J - JACK - SMT Battery Holder 18650
footprint Keystone 1042 (SMT Battery Holder 18650)
pins: 1, 2 1
text: +

## Keystone 1048
designator J*
J - JACK - SMT Battery Holder 18650X2 Cells
footprint Keystone 1048 (SMT Battery Holder 18650X2 Cells)
pins: 1, 2 1, 3, 4
text: +

## KH-SMA-K513-G_1
designator J?
J - JACK - RF SMA - Right - THT; LCSC Part #: C411575; JLC Availability: None
footprint SMA_THT_HORIZONTAL (SMA Through Hole Connector Right Angle)
pins: 0 GND1 (power), 0 GND2 (power), 0 GND3 (power), 0 GND4 (power), 1 ANT

## KS18650X2-SMT
designator J*
J - JACK - SMT Battery Holder 18650X2 Cells
footprint KS18650X2-SMT (SMT Battery Holder 18650X2 Cells)
pins: 1, 2 1, 3, 4
text: +

## KT-0603R
designator D?  (value not drawn)
D - LED - 0603 - Red; LCSC Part #: C2286; JLC Availability: Basic
footprint D_0603 (Chip Diode; Body 1.6 x 0.8 mm (LxW typ))
pins: 1 K, 2 A

## L78M05ABDT-TR
designator U?
U - IC - 5V Power Regulator; VOut: 5.0; LCSC Part #: C58069; JLC Availability: Basic
footprint TO-252AA (DPAK)
pins: 1 VIN (in), 2 GND (power), 3 Vout (out)

## L6470HTR
designator U1
U - IC - Motor Driver - Stepper; JLC Availability: Extended; LCSC Part #: C182381
footprint TSSOP-28-EP-P0.65MM-W4.4MM (Shrink Small Outline; 28 Leads)
pins: 0 PGND, 1 OUT1A, 2 VSA, 3 ~{STBY}/~{RST}, 4 SW, 5 ADCIN, 6 VREG, 7 OSCIN, 8 OSCOUT, 9 AGND, 10 CP, 11 VBOOT, 12 VSB, 13 PGND, 14 OUT1B, 15 OUT2B, 16 VSB, 17 VDD, 18 SDO, 19 CK, 20 SDI, 21 DGND, 22 BUSY/~{SYN}C, 23 ~{CS}, 24 ~{FLAG}, 25 STCK, 26 VSA, 27 PGND, 28 OUT2A

## LM317AG-TN3-R
designator U?
U - IC - ADJUSTABLE LDO; VOut: ADJ; LCSC Part #: C75510; JLC Availability: Basic
footprint TO-252AA (DPAK)
pins: 1 Vadj (power), 2 Vout (out), 3 VIN (in)

## LM324AP
designator U1, comment LM324APWR
U - IC - OP AMP (QUAD); Speed: 0.4V/us; LCSC Part #: C111180; JLC Availability: Extended
footprint TSSOP-14-P0.65MM-W4.4MM (Shrink Small Outline, TSSOP; 14 Leads; Body Width 4.4 mm; Pitch 0.65 mm)
pins: 1 OUT1 (out), 2 -IN1 (in), 3 +IN1 (in), 4 VCC (power), 5 +IN2 (in), 6 -IN2 (in), 7 +OUT2 (out), 8 +OUT3 (out), 9 -IN3 (in), 10 +IN3 (in), 11 GND (power), 12 +IN4 (in), 13 -IN4 (in), 14 OUT4 (out)

## LM324DT
designator U1, comment LM324
U - IC - OP AMP (QUAD); Speed: 0.4V/us; LCSC Part #: C71035; JLC Availability: Basic
footprint SOIC-14-P1.27-W3.5
pins: 1 OUT1 (out), 2 -IN1 (in), 3 +IN1 (in), 4 VCC (power), 5 +IN2 (in), 6 -IN2 (in), 7 +OUT2 (out), 8 +OUT3 (out), 9 -IN3 (in), 10 +IN3 (in), 11 GND (power), 12 +IN4 (in), 13 -IN4 (in), 14 OUT4 (out)

## LM393DR2G
designator U2, comment LM393
U - IC - Dual Comparator; Manufacturer: ON; Contributor: LCSC; Supplier: LCSC; LCSC Part #: C7955; Manufacturer Part: LM393; spicePre: U; spiceSymbolName: LM393
footprint SOIC-8-P1.27-W3.5
pins: 1, 2, 3, 4 GND, 5, 6, 7, 8 VDD

## LM2576HVS-ADJ/TR
designator U
U - IC - BUCK CONVERTER, ADJUSTABLE, 60V, 3A; MF: Texas Instruments; Package: TO-263-5; Availability: Extended; Value: *; LCSC Part #: C234208; Texas_Instruments-Purchase-URL: https://snapeda.com/shop?store=Texas+Instruments&id=213619
footprint TO-263-5
pins: 1 VIN (in), 2 OUT (out), 3 GND (power), 4 FB (io), 5 ON/OFF (in), 6 GND (power), 7 GND (power)

## LM5008MMX/NOPB
designator U?
U - IC - BUCK CONVERTER, ADJUSTABLE, 95V, 350mA; MP: LM5008MMX/NOPB; Package: None; Price: None; Value: *; Availability: Unavailable
footprint SOP65P490X110-8N
pins: 1 SW (io), 2 BST (io), 3 RCL (in), 4 RTN (io), 5 FB (io), 6 RT/SD (in), 7 VCC (power), 8 VIN (in)

## LM5017MRX/NOPB
designator U?
U - IC - BUCK CONVERTER, ADJUSTABLE, 100V; ComponentLink1Description: Manufacturer URL; ComponentLink1URL: http://www.st.com/web/en/home.html; ComponentLink2Description: Datasheet; ComponentLink2URL: http://www.st.com/st-web-ui/static/active/en/resource/technical/document/datasheet/CD00161566.pdf; ComponentLink3Description: Package Specification; ComponentLink3URL: http://www.st.com/st-web-ui/static/active/en/resource/technical/document/datasheet/DM00058181.pdf; JLC Availability: Extended; LCSC Part #: C34355
footprint SOIC-8-P1.27-W3.5
pins: 1 RTN, 2 VIN, 3 UVLO, 4 RON, 5 FB, 6 VCC, 7 BST, 8 SW

## LM5116MHX/NOPB
designator U
U - IC - Buck Regulator Positive Output Step-Down DC-DC Controller IC 20-HTSSOP; MF: Texas Instruments; MP: LM5116MHX; SnapEDA_Link: https://www.snapeda.com/parts/LM5116MHX/Texas%20Instruments/view-part/896578/?ref=snap; LCSC part #: C13755; Availability: Extended; Package: HTSSOP-20 Texas Instruments; Value: *
footprint SOP65P640X110-21N
pins: 1 VIN (in), 2 UVLO (in), 3 RT/SYNC (in), 4 EN (in), 5 RAMP (in), 6 AGND (power), 7 SS (in), 8 FB (in), 9 COMP (out), 10 VOUT (out), 11 DEMB (in), 12 CS (in), 13 CSG (in), 14 PGND (power), 15 LO (out), 16 VCC (power), 17 VCCX (power), 18 HB (power), 19 HO (out), 20 SW (out), 21 EXP (power)

## LM5160ADNTR
designator U1, comment LM5160DNTT
U - IC REG BCK FLYBCK ADJ 12WSON; Min Input Voltage: 4.5V; Operating Supply Current: 2.3mA; Output Current: 1.5A; Number of Outputs: 1; Topology: Flyback; Synchronous Rectifier: Yes; Output Type: Adjustable; Max Input Voltage: 65V; Min Output Voltage: 2V; Switching Frequency: 1MHz; Output Voltage: 60V; Mount: Surface Mount; Min Operating Temperature: -40°C; Package Quantity: 250; Min Supply Voltage: 4.5V; Max Operating Temperature: 125°C; RoHS Compliant: Yes; Contact Plating: Tin; Height: 0.8mm; Packaging: Tape and Reel; Quiescent Current: 2.3mA; Lead Free: Lead Free; Number of Pins: 12; Max Output Current: 1.5A; REACH SVHC: No SVHC; Width: 4mm; Operating Supply Voltage: 65V; Max Output Voltage: 60V; Length: 4mm; ClassName: Switching Reg; LCSC PART #: C473375
footprint FP-DNT0012B-IPC_A (Footprint not found)
pins: 1 AGND (power), 2 PGND (power), 3 VIN (power), 4 EN/UVLO (in), 5 RON (in), 6 SS (in), 7 FPWM (in), 8 FB (in), 9 VCC (power), 10 BST, 11 SW, 12 SW, 13 THERMAL PAD (power)

## LM5164DDAR
designator U?
U - IC - BUCK CONVERTER, ADJUSTABLE, 100V; ComponentLink1Description: Manufacturer URL; ComponentLink1URL: http://www.st.com/web/en/home.html; ComponentLink2Description: Datasheet; ComponentLink2URL: http://www.st.com/st-web-ui/static/active/en/resource/technical/document/datasheet/CD00161566.pdf; ComponentLink3Description: Package Specification; ComponentLink3URL: http://www.st.com/st-web-ui/static/active/en/resource/technical/document/datasheet/DM00058181.pdf; JLC Availability: Extended; LCSC Part #: C477928
footprint SOIC-8-P1.27-W3.5-EP
pins: 0 EP, 1 GND, 2 VIN, 3 UVLO, 4 RON, 5 FB, 6 PGD, 7 BST, 8 SW

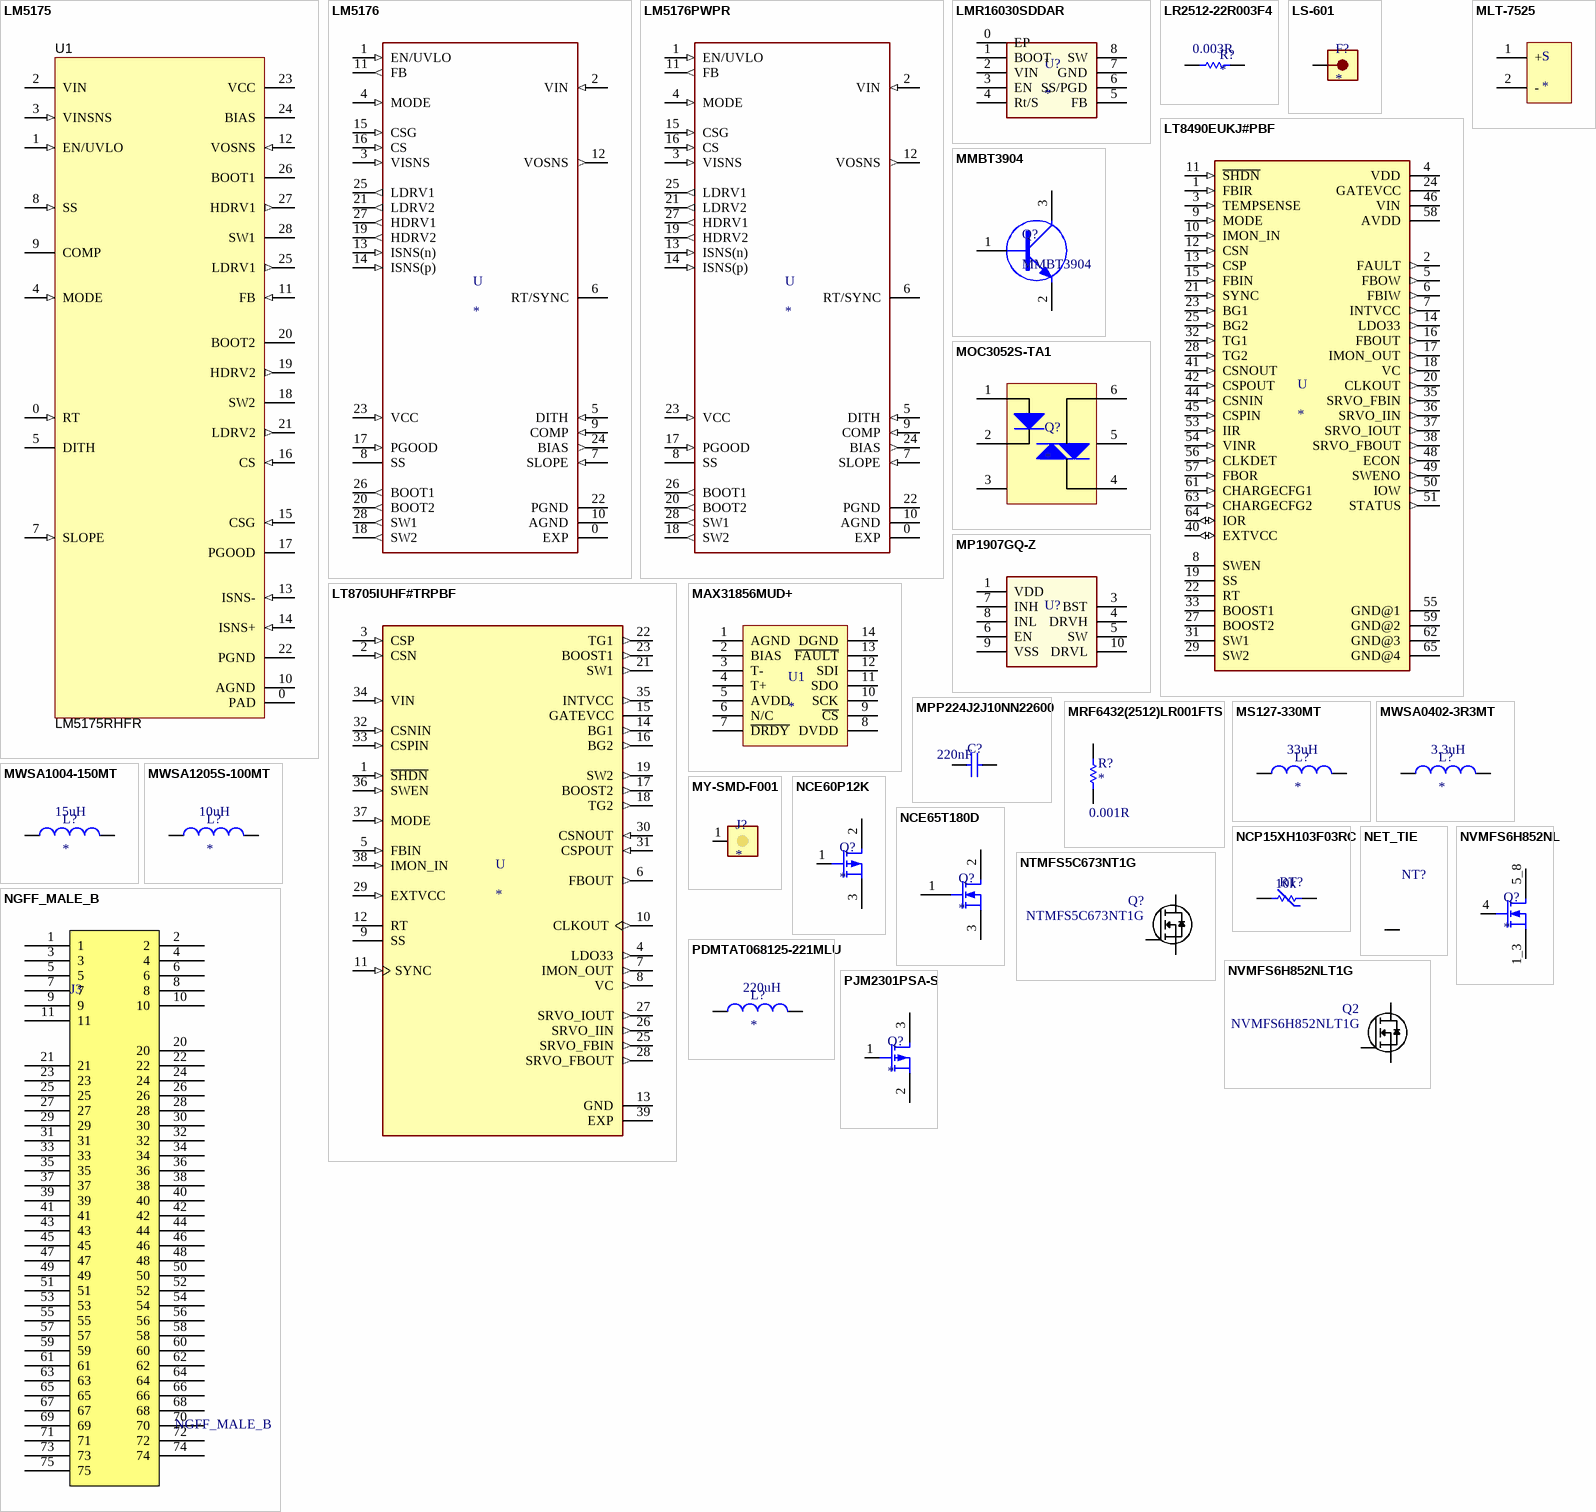
[diagram p7: symbols LM5175 to PJM2301PSA-S]

## LM5175
designator U1, comment LM5175RHFR
U - IC - 42-V wide VIN synchronous 4-switch buck-boost controller 28-HTSSOP -40 to 125; Alternate PartNumber: LM5175RHFT; Manufacturer: Texas Instruments; SymbolCreator: Altium; U/M: EA; SymbolVersion: 2014-11-17; PartNumber: LM5175RHFR; PackageReference: RHF0028A; MountType: SMT; ComponentLink1Description: Datasheet Link; ComponentLink1URL: https://sps06.itg.ti.com/sites/KMS/crossdivteams/altium/docs/ComponentDatasheets/LM5175_SNVSA37.pdf; CompType: IC; LCSC Part #: C187912; Publisher: Texas Instruments; LatestRevisionDate: 2016-01-27; Alternate Manufacturer: Texas Instruments
footprint TSSOP-28-EP-P0.65MM-W4.4MM (Shrink Small Outline; 28 Leads)
pins: 0 RT (in), 0 PAD (power), 1 EN/UVLO (in), 2 VIN (power), 3 VINSNS (in), 4 MODE (in), 5 DITH, 7 SLOPE (in), 8 SS (in), 9 COMP, 10 AGND (power), 11 FB (in), 12 VOSNS (in), 13 ISNS- (in), 14 ISNS+ (in), 15 CSG (in), 16 CS (in), 17 PGOOD (oc), 18 SW2 (power), 19 HDRV2 (out), 20 BOOT2 (power), 21 LDRV2 (out), 22 PGND (power), 23 VCC (power), 24 BIAS (power), 25 LDRV1 (out), 26 BOOT1 (power), 27 HDRV1 (out), 28 SW1 (power)
1 alternate drawing of the same symbol

## LM5176
designator U
U - IC - 55-V wide VIN synchronous 4-switch buck-boost controller 28-HTSSOP -40 to 125; Availability: Extended; LCSC Part #: C2863218
footprint TSSOP-28-EP-P0.65MM-W4.4MM (Shrink Small Outline; 28 Leads)
pins: 0 EXP (power), 1 EN/UVLO (in), 2 VIN (in), 3 VISNS (in), 4 MODE (in), 5 DITH (in), 6 RT/SYNC (power), 7 SLOPE (in), 8 SS, 9 COMP (in), 10 AGND (power), 11 FB (out), 12 VOSNS (out), 13 ISNS(n) (in), 14 ISNS(p) (in), 15 CSG (in), 16 CS (in), 17 PGOOD (in), 18 SW2 (out), 19 HDRV2 (out), 20 BOOT2 (out), 21 LDRV2 (out), 22 PGND (power), 23 VCC (in), 24 BIAS (out), 25 LDRV1 (out), 26 BOOT1 (out), 27 HDRV1 (out), 28 SW1 (out)

## LM5176PWPR
designator U
U - IC - 55-V wide VIN synchronous 4-switch buck-boost controller 28-HTSSOP -40 to 125; Availability: Extended; LCSC Part #: C442493
footprint TSSOP-28-EP-P0.65MM-W4.4MM (Shrink Small Outline; 28 Leads)
pins: 0 EXP (power), 1 EN/UVLO (in), 2 VIN (in), 3 VISNS (in), 4 MODE (in), 5 DITH (in), 6 RT/SYNC (power), 7 SLOPE (in), 8 SS, 9 COMP (in), 10 AGND (power), 11 FB (out), 12 VOSNS (out), 13 ISNS(n) (in), 14 ISNS(p) (in), 15 CSG (in), 16 CS (in), 17 PGOOD (in), 18 SW2 (out), 19 HDRV2 (out), 20 BOOT2 (out), 21 LDRV2 (out), 22 PGND (power), 23 VCC (in), 24 BIAS (out), 25 LDRV1 (out), 26 BOOT1 (out), 27 HDRV1 (out), 28 SW1 (out)

## LMR16030SDDAR
designator U?
U - IC - BUCK CONVERTER, ADJUSTABLE, 65V; ComponentLink1Description: Manufacturer URL; ComponentLink1URL: http://www.st.com/web/en/home.html; ComponentLink2Description: Datasheet; ComponentLink2URL: http://www.st.com/st-web-ui/static/active/en/resource/technical/document/datasheet/CD00161566.pdf; ComponentLink3Description: Package Specification; ComponentLink3URL: http://www.st.com/st-web-ui/static/active/en/resource/technical/document/datasheet/DM00058181.pdf; JLC Availability: Extended; LCSC Part #: C136648
footprint SOIC-8-P1.27-W3.5-EP
pins: 0 EP, 1 BOOT, 2 VIN, 3 EN, 4 Rt/S, 5 FB, 6 SS/PGD, 7 GND, 8 SW

## LR2512-22R003F4
designator R?  value 0.003R
R - RESISTOR - SMD - 0.003R - 1% - 2512 - 2W - 50ppm/k; ComponentLink1URL: http://riedon.com/media/pdf/CSR.pdf; ComponentLink1Description: http://riedon.com/media/pdf/CSR.pdf; LCSC Part #: C154669; JLC Availability: Extended
footprint R_2512 (VISHAY SHUNT RESISTOR)
pins: 1, 2

## LS-601
designator F?
F - FUSE - FUSEHOLDER - 6X30 - THT; LCSC Part #: C182321; JLC Availability: Extended
footprint LS-601 (FUSE HOLDER)
pins: 1

## LT8490EUKJ#PBF
designator U
U - IC - Battery Charger Lead-Acid/Li-Ion 1.3V to 80V 64-Pin QFN EP Tube; MF: Analog Devices; MP: LT8490EUKJ#PBF; Value: *; Availability: Unavailable; Package: QFN -58 Analog Devices; Price: None; SnapEDA_Link: https://www.snapeda.com/parts/LT8490EUKJ%23PBF/Analog%20Devices/view-part/4331724/?ref=snap
footprint QFN50P700X1100X80-65N
pins: 1 FBIR (in), 2 FAULT (out), 3 TEMPSENSE (in), 4 VDD (power), 5 FBOW (out), 6 FBIW (out), 7 INTVCC (out), 8 SWEN, 9 MODE (in), 10 IMON_IN (in), 11 ~{SHDN} (in), 12 CSN (in), 13 CSP (in), 14 LDO33 (out), 15 FBIN (in), 16 FBOUT (out), 17 IMON_OUT (out), 18 VC (out), 19 SS, 20 CLKOUT (out), 21 SYNC (in), 22 RT, 23 BG1 (in), 24 GATEVCC (power), 25 BG2 (in), 27 BOOST2, 28 TG2 (in), 29 SW2, 31 SW1, 32 TG1 (in), 33 BOOST1, 35 SRVO_FBIN (out), 36 SRVO_IIN (out), 37 SRVO_IOUT (out), 38 SRVO_FBOUT (out), 40 EXTVCC (io), 41 CSNOUT (in), 42 CSPOUT (in), 44 CSNIN (in), 45 CSPIN (in), 46 VIN (power), 48 ECON (out), 49 SWENO (out), 50 IOW (out), 51 STATUS (out), 53 IIR (in), 54 VINR (in), 55 GND@1 (power), 56 CLKDET (in), 57 FBOR (in), 58 AVDD (power), 59 GND@2 (power), 61 CHARGECFG1 (in), 62 GND@3 (power), 63 CHARGECFG2 (in), 64 IOR (io), 65 GND@4 (power)

## LT8705IUHF#TRPBF
designator U
U - IC - DC/DC Cntrlr Single-OUT Step Down/Step Up 400kHz Automotive 38-Pin QFN EP T/R; MP: LT8705AIUHF#TRPBF; MF: Analog Devices; Value: *; SnapEDA_Link: https://www.snapeda.com/parts/LT8705IUHF%23TRPBF/Analog%20Devices/view-part/4330144/?ref=snap; DigiKey-Purchase-URL: https://snapeda.com/shop?store=DigiKey&id=4330144; Availability: Extended; Package: QFN -38 Analog Devices; LCSC Part #: C674170
footprint QFN50P700X1100X80-65N
pins: 1 ~{SHDN} (in), 2 CSN (in), 3 CSP (in), 4 LDO33 (out), 5 FBIN (in), 6 FBOUT (out), 7 IMON_OUT (out), 8 VC (out), 9 SS, 10 CLKOUT (out), 11 SYNC (in), 12 RT, 13 GND (power), 14 BG1 (out), 15 GATEVCC (power), 16 BG2 (out), 17 BOOST2 (out), 18 TG2 (out), 19 SW2 (out), 21 SW1 (out), 22 TG1 (out), 23 BOOST1 (out), 25 SRVO_FBIN (out), 26 SRVO_IIN (out), 27 SRVO_IOUT (out), 28 SRVO_FBOUT (out), 29 EXTVCC (in), 30 CSNOUT (in), 31 CSPOUT (in), 32 CSNIN (in), 33 CSPIN (in), 34 VIN (in), 35 INTVCC (out), 36 SWEN (in), 37 MODE (in), 38 IMON_IN (in), 39 EXP (power)

## MAX31856MUD+
designator U1
U - IC - Sensor Interface Precision Thermocouple to Digital Converter with Linearization; JLC Availability: Extended; LCSC Part #: C116632
footprint TSSOP-14-P0.65MM-W4.4MM (Shrink Small Outline, TSSOP; 14 Leads; Body Width 4.4 mm; Pitch 0.65 mm)
pins: 1 AGND, 2 BIAS, 3 T-, 4 T+, 5 AVDD, 6 N/C, 7 ~{DRDY}, 8 DVDD, 9 ~{CS}, 10 SCK, 11 SDO, 12 SDI, 13 ~{FAULT}, 14 DGND

## MLT-7525
designator S
S - Speaker - Externally Driven 7.5mm; Package: 7.5mm; MF: MLT-7525; Value: *; LCSC Part #: C95299; Availability: Extended
footprint MLT-7525 (Tactile Switch SPST-NO Top Actuated Surface Mount)
pins: 1 +, 2 -

## MMBT3904
designator Q?
Q - TRANSISTOR - BJT - NPN - 40V 200mA; JLC Availability: Basic; LCSC Part #: C20526
footprint TO-236AB (SOT-23-3 Leads; Body 3.1 x 3 mm, inc. leads (LxW max))
pins: 1 B, 2 E, 3 C

## MOC3052S-TA1
designator Q?
U - THYRISTOR OPTOCOUPLER - 5000V; WVDC: 5000; JLC Availability: Extended; LCSC Part #: C115471
footprint PDIP-6-SMD (Optoisolator)
pins: 1 K, 2 A, 3 A, 4 A, 5 A, 6 A

## MP1907GQ-Z
designator U?
U - IC - GATE DRIVER - Half Bridge; ComponentLink1Description: Manufacturer URL; ComponentLink1URL: http://www.st.com/web/en/home.html; ComponentLink2Description: Datasheet; ComponentLink2URL: http://www.st.com/st-web-ui/static/active/en/resource/technical/document/datasheet/CD00161566.pdf; ComponentLink3Description: Package Specification; ComponentLink3URL: http://www.st.com/st-web-ui/static/active/en/resource/technical/document/datasheet/DM00058181.pdf; JLC Availability: Extended; LCSC Part #: C380794
footprint DFN-10-P0.5MM-EP (Quad Flat No Lead, Plastic; 10 Terminals; Body 3x3 mm; Pitch 0.5 mm)
pins: 1 VDD "VSS", 3 BST, 4 DRVH, 5 SW, 6 EN, 7 INH "VSS_3", 8 INL, 9 VSS, 10 DRVL

## MPP224J2J10NN22600
designator C?  value 220nF  (hidden comment: *)
C - CAPACITOR - FILM - 220nF - 630V - 10mm Plugin; WVDC: 630V; LCSC Part #: C506861; JLC Availability: Extended
footprint CAP_D10_FILM
pins: 1, 2

## MRF6432(2512)LR001FTS
designator R?  value 0.001R
R - RESISTOR - SMD - 0.001R - 1% - 2512 - 2W; ComponentLink1URL: http://riedon.com/media/pdf/CSR.pdf; ComponentLink1Description: http://riedon.com/media/pdf/CSR.pdf; LCSC Part #: C76233; JLC Availability: Extended
footprint R_2512 (VISHAY SHUNT RESISTOR)
pins: 1, 2

## MS127-330MT
designator L?  value 33uH
L - INDUCTOR - 33uH - 3A - 12.2mm; Isat: 3A; LCSC Part #: C143226; JLC Availability: Extended
footprint SRR1260 (High Current Inductors)
pins: 1, 2

## MWSA0402-3R3MT
designator L?  value 3.3uH
L - INDUCTOR - 3.3uH - 3A - 4mm; Isat: 2A; LCSC Part #: C169185; JLC Availability: Extended
pins: 1, 2

## MWSA1004-150MT
designator L?  value 15uH
L - INDUCTOR - 15uH - 6.25A - 12.5mm; Isat: 6.25A; LCSC Part #: C151872; JLC Availability: Extended
footprint SRR1260 (High Current Inductors)
pins: 1, 2

## MWSA1205S-100MT
designator L?  value 10uH
L - INDUCTOR - 10uH - 9A - 12.5mm; Isat: 9A; LCSC Part #: C143971; JLC Availability: Extended
footprint SRR1260 (High Current Inductors)
pins: 1, 2

## MY-SMD-F001
designator J?
J - JACK - POWER - SPRING; LCSC Part #: C2902335; JLC Availability: Extended
footprint MY-SMD-F001
pins: 1

## NCE60P12K
designator Q?
Q - TRANSISTOR - MOSFET (P) - 60V - 12A - 0.1R; WVDC: 60; LCSC Part #: C326372; JLC Availability: Extended
footprint TO-252AA (DPAK)
pins: 1 G, 2 D, 3 S

## NCE65T180D
designator Q?
Q - TRANSISTOR - MOSFET (N) - 600V - 21A - 0.18R; WVDC: 600; JLC Availability: Extended; LCSC Part #: C190850
footprint TO-263-3 (D2PAK)
pins: 1 G, 2 D, 3 S

## NCP15XH103F03RC
designator RT?  value 10k  (hidden comment: *)
RT - NTC THERMISTOR - 10k - 1% - 0402; Value2: 3380k; LCSC Part #: C77131; JLC Availability: Extended
footprint R_0402 (Body 1.0 x 0.5 mm (LxW typ))
pins: 1, 2

## NET_TIE
designator NT?, comment 0  (value not drawn)
R - Net Tie
footprint NET_TIE (Body 1.0 x 0.5 mm (LxW typ))
pins: 1, 2

## NGFF_MALE_B
designator J3
J - JACK - NGFF Male Finger, B Key; Manufacturer: Kyocera; Manufacturer P/N: 245863050024829
footprint NGFF_MALE_B (NGFF B Key, Male)
pins: 1, 2, 3, 4, 5, 6, 7, 8, 9, 10, 11, 20, 21, 22, 23, 24, 25, 26, 27, 28, 29, 30, 31, 32, 33, 34, 35, 36, 37, 38, 39, 40, 41, 42, 43, 44, 45, 46, 47, 48, 49, 50, 51, 52, 53, 54, 55, 56, 57, 58, 59, 60, 61, 62, 63, 64, 65, 66, 67, 68, 69, 70, 71, 72, 73, 74, 75

## NTMFS5C673NT1G
designator Q?
Q - 80V 50A 8.9mΩ N CHANNEL; MANUFACTURER: onsemi; LCSC_PART: C900313; ClassName: OnePhase
footprint TDSON-8 PKG MOSFET (TDSON-8 MOSFET)
pins: 1 S, 2 S, 3 S, 4 GATE, 5 D, 6 D, 7 D, 8 D, 9 D, 10 S

## NVMFS6H852NL
designator Q?
Q - TRANSISTOR - MOSFET (N) - 80V - 42A; WVDC: 80; JLC Availability: Basic; LCSC Part #: C900482
footprint SO-8FL (Footprint not found)
pins: 1_3 S, 4 G, 5_8 D

## NVMFS6H852NLT1G
designator Q2
Q - NVMFS6H852NLT1G 80V 42A 10.8mΩ N CHANNEL; MANUFACTURER: onsemi; LCSC_PART: C900482; ClassName: OnePhase
footprint TDSON-8 PKG MOSFET (TDSON-8 MOSFET)
pins: 1 S, 2 S, 3 S, 4 GATE, 5 D, 6 D, 7 D, 8 D, 9 D, 10 S

## PDMTAT068125-221MLU
designator L?  value 220uH
L - INDUCTOR - 220uH - 5A - 23mm; Isat: 5A; LCSC Part #: C3011545; JLC Availability: Extended
footprint 8MM_TOROID
pins: 1, 2

## PJM2301PSA-S
designator Q?
Q - TRANSISTOR - MOSFET (P) - 20V - 2A - 0.12 Ohm; WVDC: 20; JLC Availability: Extended; LCSC Part #: C411716
footprint TO-236AB (SOT-23-3 Leads; Body 3.1 x 3 mm, inc. leads (LxW max))
pins: 1 G, 2 S, 3 D

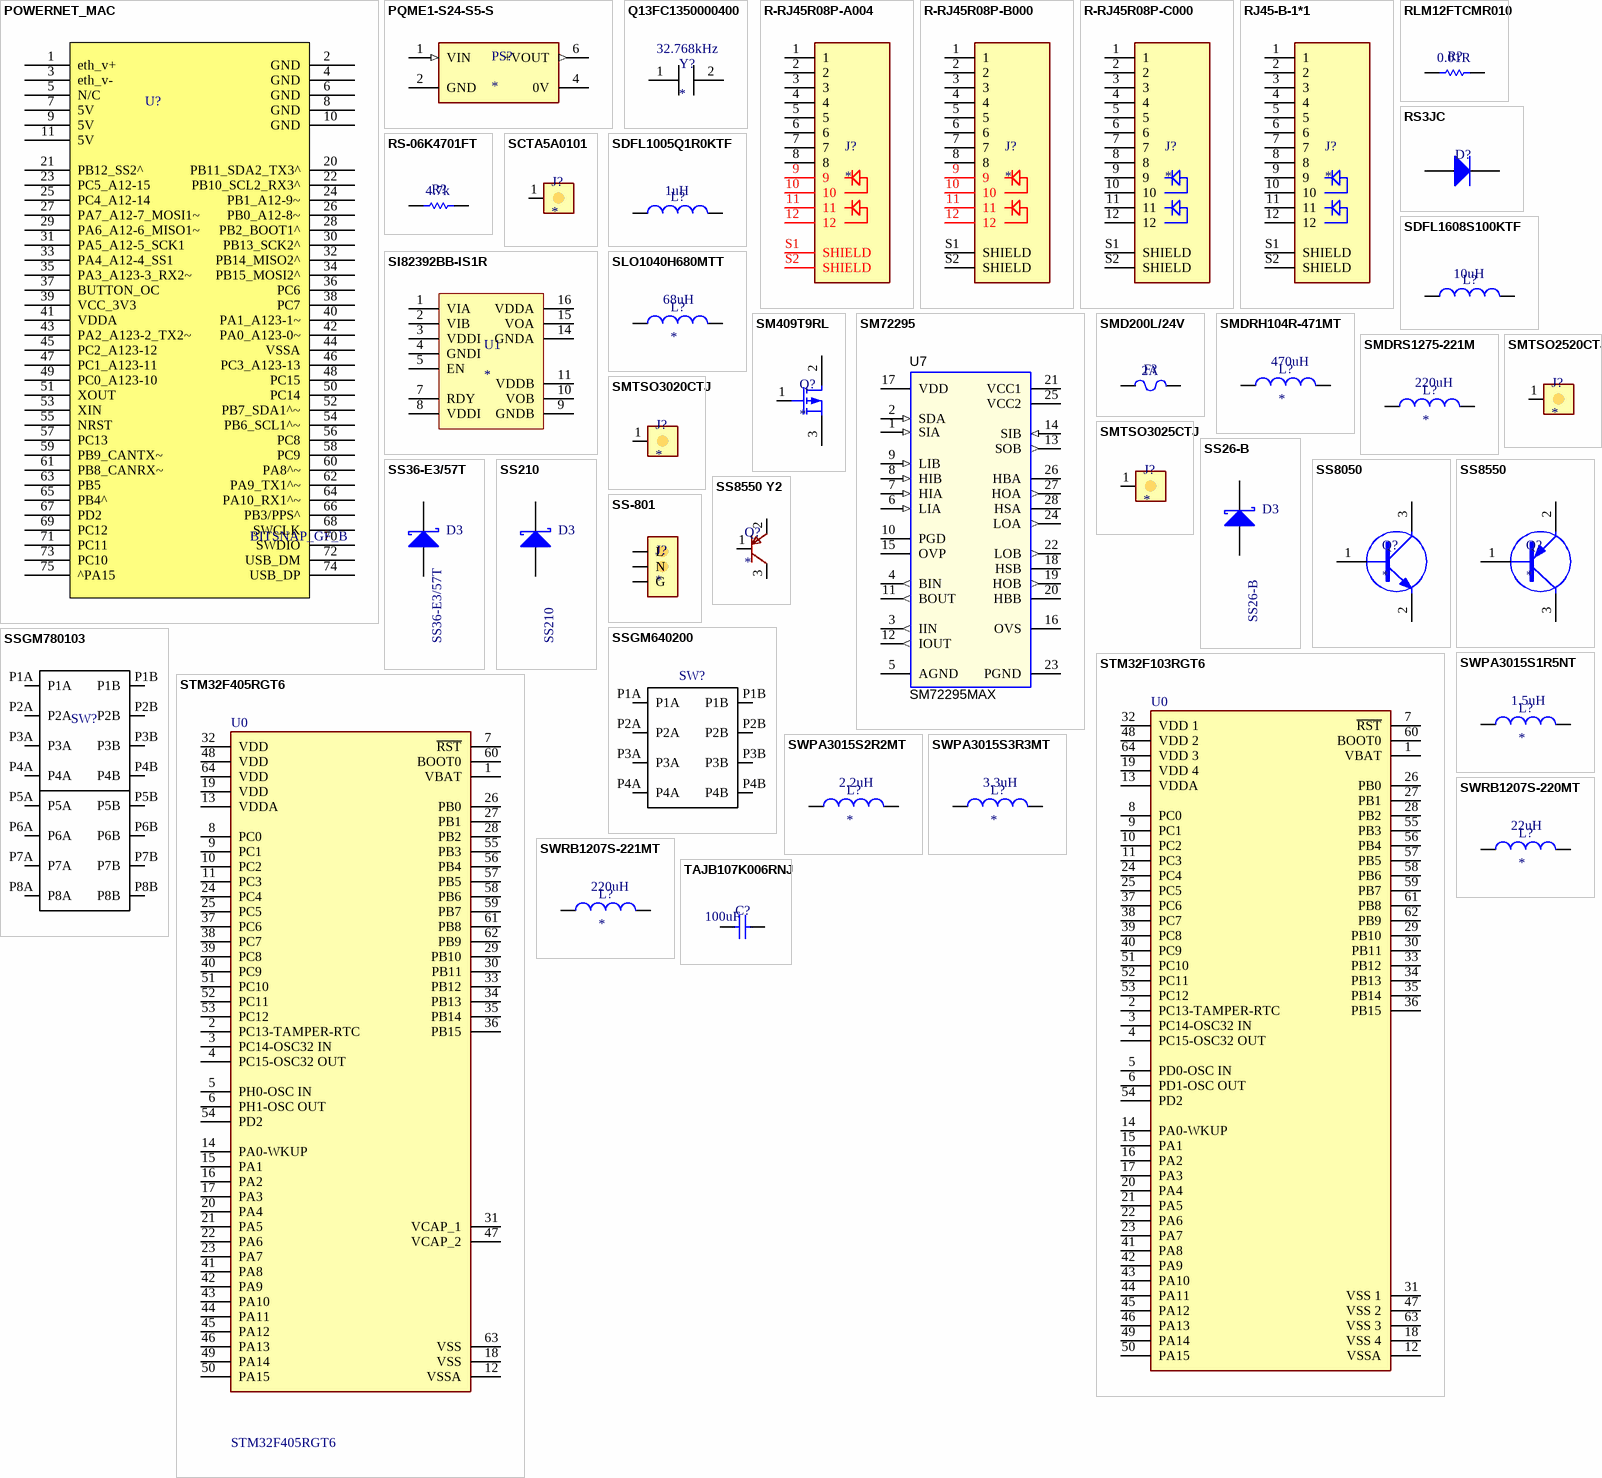
[diagram p8: symbols POWERNET_MAC to TAJB107K006RNJ]

## POWERNET_MAC
designator U?, comment BITSNAP_GF_B
U - IC - Bitsnap CPU, NGFF B Key; Manufacturer: Foxconn; Manufacturer P/N: AS0BC21-S30BB-7H; LCSC Part #: C2761344
footprint POWERNET-MAC (IC - Powernet MAC - NGFF B KEY, TE 2199119-3)
pins: 1 eth_v+, 2 GND, 3 eth_v-, 4 GND, 5 N/C, 6 GND, 7 5V, 8 GND, 9 5V, 10 GND, 11 5V, 20 PB11_SDA2_TX3^, 21 PB12_SS2^, 22 PB10_SCL2_RX3^, 23 PC5_A12-15, 24 PB1_A12-9~, 25 PC4_A12-14, 26 PB0_A12-8~, 27 PA7_A12-7_MOSI1~, 28 PB2_BOOT1^, 29 PA6_A12-6_MISO1~, 30 PB13_SCK2^, 31 PA5_A12-5_SCK1, 32 PB14_MISO2^, 33 PA4_A12-4_SS1, 34 PB15_MOSI2^, 35 PA3_A123-3_RX2~, 36 PC6, 37 BUTTON_OC, 38 PC7, 39 VCC_3V3, 40 PA1_A123-1~, 41 VDDA, 42 PA0_A123-0~, 43 PA2_A123-2_TX2~, 44 VSSA, 45 PC2_A123-12, 46 PC3_A123-13, 47 PC1_A123-11, 48 PC15, 49 PC0_A123-10, 50 PC14, 51 XOUT, 52 PB7_SDA1^~, 53 XIN, 54 PB6_SCL1^~, 55 NRST, 56 PC8, 57 PC13, 58 PC9, 59 PB9_CANTX~, 60 PA8^~, 61 PB8_CANRX~, 62 PA9_TX1^~, 63 PB5, 64 PA10_RX1^~, 65 PB4^, 66 PB3/PPS^, 67 PD2, 68 SWCLK, 69 PC12, 70 SWDIO, 71 PC11, 72 USB_DM, 73 PC10, 74 USB_DP, 75 ^PA15

## PQME1-S24-S5-S
designator PS?
U - IC - 1 W, 1:1 Input Range, Single/Dual Unregulated Output, SIP, 24VDC IN, 3000 Vdc Isolation, Dc-Dc Converter; MP: PQME1-S24-S5-S; Value: 5VDC; MF: CUI Inc.; Package: SIP; Purchase-URL: https://pricing.snapeda.com/search/part/PEME1-S5-S3-S/?ref=eda; LCSC Part #: N/A; Availability: None; SnapEDA_Link: https://www.snapeda.com/parts/PEME1-S5-S3-S/CUI/view-part/?ref=snap; CUI_purchase_URL: https://www.cui.com/product/dc-dc-converters/isolated/peme1-s-series?utm_source=snapeda.com&utm_medium=referral&utm_campaign=snapedaBOM
footprint PQME1
pins: 1 VIN (in), 2 GND (power), 4 0V, 6 +VOUT (out)

## Q13FC1350000400
designator Y?  value 32.768kHz
Y - RESONATOR - 32.768KHZ - ±20PPM - SMD 3215; JLC Availability: Basic; LCSC Part #: C32346
footprint SMD-3215 (Footprint not found)
pins: 1, 2

## R-RJ45R08P-A004
designator J?
J - JACK - 8P8C - Right INV - NO LED - NO SHIELD - THT; LCSC Part #: C385834; JLC Availability: Extended
footprint R-RJ45R08P-A004
pins: 1, 2, 3, 4, 5, 6, 7, 8, 9, 10, 11, 12, S1 SHIELD, S2 SHIELD

## R-RJ45R08P-B000
designator J?
J - JACK - 8P8C - Right INV - NO LED - SHIELD - THT; LCSC Part #: R-RJ45R08P-B000; JLC Availability: Extended
footprint R-RJ45R08P-A004
pins: 1, 2, 3, 4, 5, 6, 7, 8, 9, 10, 11, 12, S1 SHIELD, S2 SHIELD

## R-RJ45R08P-C000
designator J?
J - JACK - 8P8C - Right INV - LED - SHIELD - THT; LCSC Part #: C386757; JLC Availability: Extended
footprint R-RJ45R08P-C000
pins: 1, 2, 3, 4, 5, 6, 7, 8, 9, 10, 11, 12, S1 SHIELD, S2 SHIELD

## RJ45-B-1*1
designator J?
J - JACK - 8P8C - Right INV - LED - SHIELD - THT; LCSC Part #: C138392; JLC Availability: Extended
footprint TE_2-406549-1
pins: 1, 2, 3, 4, 5, 6, 7, 8, 9, 10, 11, 12, S1 SHIELD, S2 SHIELD

## RLM12FTCMR010
designator R?  value 0.01R  (hidden comment: *)
R - RESISTOR - SMD - 0.01R - 1% - 1206; LCSC Part #: C188070; JLC Availability: Basic
footprint R_1206 (Body 3.2 x 1.6 mm (LxW typ))
pins: 1, 2

## RS3JC
designator D?  (value not drawn)
D - DIODE - FAST TRR - 600V - 3A; LCSC Part #: C64953; JLC Availability: Extended
footprint DO-214AB (SMC Diode)
pins: 1 K, 2 A

## RS-06K4701FT
designator R?  value 4.7k  (hidden comment: *)
R - RESISTOR - SMD - 4.7k - 1% - 1206; LCSC Part #: C140405; JLC Availability: Basic
footprint R_1206 (Body 3.2 x 1.6 mm (LxW typ))
pins: 1, 2

## SCTA5A0101
designator J?
J - JACK - SPRING; LCSC Part #: C255503; JLC Availability: Extended
footprint SCTA5A0101 (Spring Contact)
pins: 1

## SDFL1005Q1R0KTF
designator L?  value 1uH  (hidden comment: *)
L - INDUCTOR - 1uH - 0402; JLC Availability: Extended; LCSC Part #: SDFL1005Q1R0KTF
footprint L_0402 (Chip Inductor, Body 1.1 x 0.5 mm (LxW typ))
pins: 1, 2

## SDFL1608S100KTF
designator L?  value 10uH  (hidden comment: *)
L - INDUCTOR - 10uH - 0603; JLC Availability: Basic; LCSC Part #: C1035
footprint L_0603
pins: 1, 2

## SI82392BB-IS1R
designator U1
U - IC - GATE DRIVER - Half Bridge - Isolated; LCSC Part #: C461849; JLC Availability: Basic
footprint SOIC-16-P1.27-W3.5
pins: 1 VIA, 2 VIB, 3 VDDI, 4 GNDI, 5 EN, 7 RDY, 8 VDDI, 9 GNDB, 10 VOB, 11 VDDB, 14 GNDA, 15 VOA, 16 VDDA

## SLO1040H680MTT
designator L?  value 68uH
L - INDUCTOR - 68uH - 2.1A - 12.5mm; Isat: 2.1A; LCSC Part #: C207853; JLC Availability: Extended
footprint SRR1260_SMALL_PAD (Footprint not found)
pins: 1, 2

## SM409T9RL
designator Q?
Q - TRANSISTOR - MOSFET (P) - 60V - 23A - 0.04R; WVDC: 60; LCSC Part #: C5143536; JLC Availability: Extended
footprint TO-252AA (DPAK)
pins: 1 G, 2 D, 3 S

## SM72295
designator U7, comment SM72295MAX
U - IC - Photovoltaic Full Bridge Driver; Manufacturer: National Semiconductor; PackageTopMarking: S13051; ComponentLink1Description: Solar Magic Website; ComponentLink1URL: http://www.solarmagic.com; CompType: Driver; PackageReference: M28B_N; PartNumber: SM72295; RoHS: Y; PinCount: 28; PackageDescription: SOIC-28
footprint M28B_M (SOIC, 28-Leads, Body 17.9x7.5mm, Pitch 1.27mm, IPC Low Density)
pins: 1 SIA (in), 2 SDA (in), 3 IIN (out), 4 BIN (out), 5 AGND (power), 6 LIA (in), 7 HIA (in), 8 HIB (in), 9 LIB (in), 10 PGD (oc), 11 BOUT (out), 12 IOUT (out), 13 SOB (out), 14 SIB (in), 15 OVP, 16 OVS, 17 VDD (power), 18 HSB, 19 HOB (out), 20 HBB, 21 VCC1 (power), 22 LOB (out), 23 PGND (power), 24 LOA (out), 25 VCC2 (power), 26 HBA, 27 HOA (out), 28 HSA

## SMD200L/24V
designator F?  value 2A  (hidden comment: *)
F - FUSE - PTC - 2A HOLD - 4A TRIP - SMD; LCSC Part #: C70141; JLC Availability: Extended
footprint JK-SMD200L-24 (Body 7.24 x 3.81 mm (LxW typ))
pins: 1, 2

## SMDRH104R-471MT
designator L?  value 470uH
L - INDUCTOR - 470uH - 0.6A - 12.5mm; Isat: 650mA; LCSC Part #: C10147; JLC Availability: Extended
footprint SRR1260 (High Current Inductors)
pins: 1, 2

## SMDRS1275-221M
designator L?  value 220uH
L - INDUCTOR - 220uH - 1.3A - 12.5mm; Isat: 1.3A; LCSC Part #: C163690; JLC Availability: Extended
footprint SRR1260 (High Current Inductors)
pins: 1, 2

## SMTSO2520CTJ
designator J?
J - PCB NUT - M2.5 x 2; LCSC Part #: C2915630; JLC Availability: Extended
footprint SMTSO2520CTJ (PCB Nut)
pins: 1

## SMTSO3020CTJ
designator J?
J - PCB NUT - M3 x 2; LCSC Part #: C2916381; JLC Availability: Extended
footprint SMTSO3020CTJ (PCB Nut)
pins: 1

## SMTSO3025CTJ
designator J?
J - PCB NUT - M3 x 2.5; LCSC Part #: C2916365; JLC Availability: Extended
footprint SMTSO3025CTJ (PCB Nut)
pins: 1

## SS26-B
designator D3
D - DIODE - SCHOTTKY - 60V - 2A; Vrrm: 60; If: 2A; LCSC Part #: C397622; JLC Availability: Extended
footprint DO-214AA (SMB Diode)
pins: 1 K, 2 A

## SS36-E3/57T
designator D3
D - DIODE - SCHOTTKY - 60V - 3A; Vrrm: 60; If: 3A; LCSC Part #: C35722; JLC Availability: Extended
footprint DO-214AB (SMC Diode)
pins: 1 K, 2 A

## SS210
designator D3
D - DIODE - SCHOTTKY - 100V - 2A; Vrrm: 100; If: 2A; LCSC Part #: C14996; JLC Availability: Extended
footprint DO-214AC (SMA Diode)
pins: 1 K, 2 A

## SS8050
designator Q?
Q - TRANSISTOR - BJT - NPN - 25V 1.5A; JLC Availability: Basic; LCSC Part #: C2150
footprint TO-236AB (SOT-23-3 Leads; Body 3.1 x 3 mm, inc. leads (LxW max))
pins: 1 B, 2 E, 3 C

## SS8550
designator Q?
Q - TRANSISTOR - BJT - PNP - 25V 1.5A; JLC Availability: Basic; LCSC Part #: C8542
footprint TO-236AB (SOT-23-3 Leads; Body 3.1 x 3 mm, inc. leads (LxW max))
pins: 1 B, 2 E, 3 C

## SS8550 Y2
designator Q?
Q - TRANSISTOR - BJT - PNP - 25V 1.5A; JLC Availability: Basic; LCSC Part #: C8542
footprint TO-236AB (SOT-23-3 Leads; Body 3.1 x 3 mm, inc. leads (LxW max))
pins: 1 B, 2 E, 3 C

## SS-801
designator J?
J - JACK - POWER - 220/V115V - TOP - FEMALE; JLC Availability: None
footprint ss-801 (Universal AC Outlet)
pins: G, L, N

## SSGM640200
designator SW?  (value not drawn)
SW - SWITCH - 4 DIP; SnapEDA_Link: https://www.snapeda.com/parts/A6S-4104-H/Omron+Electronics+Inc-EMC+Div/view-part/?ref=snap; Check_prices: https://www.snapeda.com/parts/A6S-4104-H/Omron+Electronics+Inc-EMC+Div/view-part/?ref=eda; Value: *; LCSC Part #: C470325; JLC Availability: Extended
footprint SSGM640200
pins: P1A (io), P1B (io), P2A (io), P2B (io), P3A (io), P3B (io), P4A (io), P4B (io)

## SSGM780103
designator SW?  (value not drawn)
SW - SWITCH - 8 DIP; SnapEDA_Link: https://www.snapeda.com/parts/A6S-4104-H/Omron+Electronics+Inc-EMC+Div/view-part/?ref=snap; Check_prices: https://www.snapeda.com/parts/A6S-4104-H/Omron+Electronics+Inc-EMC+Div/view-part/?ref=eda; Value: *; LCSC Part #: C470325; JLC Availability: Extended
footprint SSGM780103
pins: P1A (io), P1B (io), P2A (io), P2B (io), P3A (io), P3B (io), P4A (io), P4B (io), P5A (io), P5B (io), P6A (io), P6B (io), P7A (io), P7B (io), P8A (io), P8B (io)

## STM32F103RGT6
designator U0  (value not drawn)
U - IC - MCU 32BIT 128KB FLASH 64LQFP; Part Number: STM32F103RBT6; ComponentLink2Description: Datasheet; ComponentLink1URL: https://upverter.com/upn/revision/179c87d5c3d4f257/; ComponentLink1Description: Upverter; ComponentLink2URL: http://www.st.com/content/ccc/resource/technical/document/datasheet/33/d4/6f/1d/df/0b/4c/6d/CD00161566.pdf/files/CD00161566.pdf/jcr:content/translations/en.CD00161566.pdf; LCSC Part #: C8735; JLC Availability: Extended
footprint QFP-64-P0.5MM (64-Pin Plastic Quad Flat Pack (TQFP))
pins: 1 VBAT (power), 2 PC13-TAMPER-RTC, 3 PC14-OSC32 IN, 4 PC15-OSC32 OUT, 5 PD0-OSC IN, 6 PD1-OSC OUT, 7 ~{RST}, 8 PC0, 9 PC1, 10 PC2, 11 PC3, 12 VSSA (power), 13 VDDA (power), 14 PA0-WKUP, 15 PA1, 16 PA2, 17 PA3, 18 VSS 4 (power), 19 VDD 4 (power), 20 PA4, 21 PA5, 22 PA6, 23 PA7, 24 PC4, 25 PC5, 26 PB0, 27 PB1, 28 PB2, 29 PB10, 30 PB11, 31 VSS 1 (power), 32 VDD 1 (power), 33 PB12, 34 PB13, 35 PB14, 36 PB15, 37 PC6, 38 PC7, 39 PC8, 40 PC9, 41 PA8, 42 PA9, 43 PA10, 44 PA11, 45 PA12, 46 PA13, 47 VSS 2 (power), 48 VDD 2 (power), 49 PA14, 50 PA15, 51 PC10, 52 PC11, 53 PC12, 54 PD2, 55 PB3, 56 PB4, 57 PB5, 58 PB6, 59 PB7, 60 BOOT0, 61 PB8, 62 PB9, 63 VSS 3 (power), 64 VDD 3 (power)

## STM32F405RGT6
designator U0
U - IC - MCU 32BIT 1MB FLASH 64LQFP; ComponentLink2Description: Datasheet; ComponentLink1URL: https://upverter.com/upn/revision/179c87d5c3d4f257/; ComponentLink1Description: Upverter; ComponentLink2URL: http://www.st.com/content/ccc/resource/technical/document/datasheet/33/d4/6f/1d/df/0b/4c/6d/CD00161566.pdf/files/CD00161566.pdf/jcr:content/translations/en.CD00161566.pdf; LCSC Part #: C15742; JLC Availability: Extended
footprint QFP-64-P0.5MM (64-Pin Plastic Quad Flat Pack (TQFP))
pins: 1 VBAT (power), 2 PC13-TAMPER-RTC, 3 PC14-OSC32 IN, 4 PC15-OSC32 OUT, 5 PH0-OSC IN, 6 PH1-OSC OUT, 7 ~{RST}, 8 PC0, 9 PC1, 10 PC2, 11 PC3, 12 VSSA (power), 13 VDDA (power), 14 PA0-WKUP, 15 PA1, 16 PA2, 17 PA3, 18 VSS (power), 19 VDD (power), 20 PA4, 21 PA5, 22 PA6, 23 PA7, 24 PC4, 25 PC5, 26 PB0, 27 PB1, 28 PB2, 29 PB10, 30 PB11, 31 VCAP_1 (power), 32 VDD (power), 33 PB12, 34 PB13, 35 PB14, 36 PB15, 37 PC6, 38 PC7, 39 PC8, 40 PC9, 41 PA8, 42 PA9, 43 PA10, 44 PA11, 45 PA12, 46 PA13, 47 VCAP_2 (power), 48 VDD (power), 49 PA14, 50 PA15, 51 PC10, 52 PC11, 53 PC12, 54 PD2, 55 PB3, 56 PB4, 57 PB5, 58 PB6, 59 PB7, 60 BOOT0, 61 PB8, 62 PB9, 63 VSS (power), 64 VDD (power)